# Altium integrated library ST Memory EEPROM Flash.IntLib: 1183 symbols (part 11 of 23)
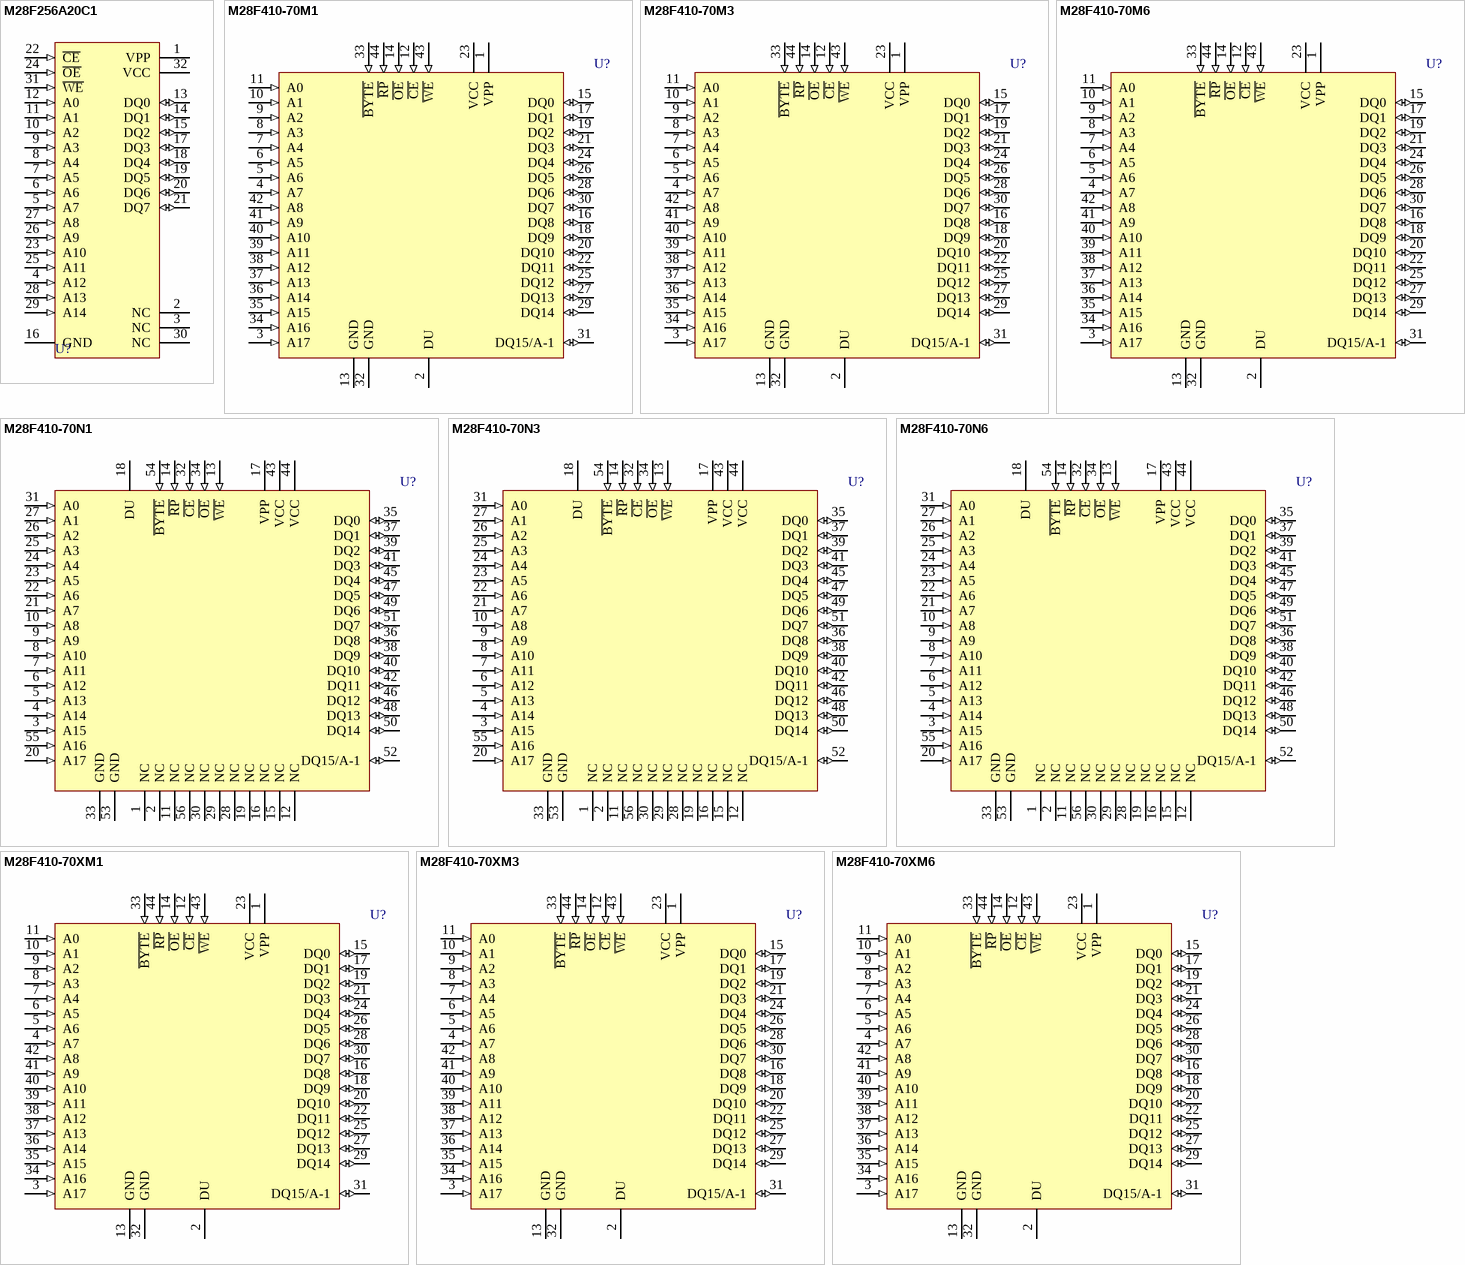
[diagram p91: symbols M28F256A20C1 to M28F410-70XM6]

## M28F410-70N6
designator U?
4 Mbit (x8 or x16, Block Erase) Flash Memory; Note: Do Not Use pin number 18 (DU).; Published: 24-Aug-2001; LatestRevisionDate: 17-Jul-2002; LatestRevisionNote: Re-released for DXP Platform.; DatasheetDocument: Mar-1995; PackageDocument: Jul-1998; PackageReference: TSOP56; Publisher: Altium Limited; Code_JEDEC: MO-142-EC
footprint TSOP56 (Shrink Small Outline, Plastic, Thin; 56 Leads; Body Width 18.4 mm; Pitch 0.5 mm)
pins: 1 NC, 2 NC, 3 A15 (in), 4 A14 (in), 5 A13 (in), 6 A12 (in), 7 A11 (in), 8 A10 (in), 9 A9 (in), 10 A8 (in), 11 NC, 12 NC, 13 ~{WE} (in), 14 ~{RP} (in), 15 NC, 16 NC, 17 VPP (power), 18 DU, 19 NC, 20 A17 (in), 21 A7 (in), 22 A6 (in), 23 A5 (in), 24 A4 (in), 25 A3 (in), 26 A2 (in), 27 A1 (in), 28 NC, 29 NC, 30 NC, 31 A0 (in), 32 ~{CE} (in), 33 GND (power), 34 ~{OE} (in), 35 DQ0 (io), 36 DQ8 (io), 37 DQ1 (io), 38 DQ9 (io), 39 DQ2 (io), 40 DQ10 (io), 41 DQ3 (io), 42 DQ11 (io), 43 VCC (power), 44 VCC (power), 45 DQ4 (io), 46 DQ12 (io), 47 DQ5 (io), 48 DQ13 (io), 49 DQ6 (io), 50 DQ14 (io), 51 DQ7 (io), 52 DQ15/A-1 (io), 53 GND (power), 54 ~{BYTE} (in), 55 A16 (in), 56 NC

## M28F410-70XM1
designator U?
4 Mbit (x8 or x16, Block Erase) Flash Memory; Note: Do Not Use pin number 2 (DU).; Published: 24-Aug-2001; LatestRevisionDate: 17-Jul-2002; LatestRevisionNote: Re-released for DXP Platform.; DatasheetDocument: Mar-1995; PackageReference: SO44; Publisher: Altium Limited
footprint SO44 (Small Outline, Plastic; 44 Leads; Body Width 13.3 mm; Pitch 1.27 mm)
pins: 1 VPP (power), 2 DU, 3 A17 (in), 4 A7 (in), 5 A6 (in), 6 A5 (in), 7 A4 (in), 8 A3 (in), 9 A2 (in), 10 A1 (in), 11 A0 (in), 12 ~{CE} (in), 13 GND (power), 14 ~{OE} (in), 15 DQ0 (io), 16 DQ8 (io), 17 DQ1 (io), 18 DQ9 (io), 19 DQ2 (io), 20 DQ10 (io), 21 DQ3 (io), 22 DQ11 (io), 23 VCC (power), 24 DQ4 (io), 25 DQ12 (io), 26 DQ5 (io), 27 DQ13 (io), 28 DQ6 (io), 29 DQ14 (io), 30 DQ7 (io), 31 DQ15/A-1 (io), 32 GND (power), 33 ~{BYTE} (in), 34 A16 (in), 35 A15 (in), 36 A14 (in), 37 A13 (in), 38 A12 (in), 39 A11 (in), 40 A10 (in), 41 A9 (in), 42 A8 (in), 43 ~{WE} (in), 44 ~{RP} (in)

## M28F410-70XM3
designator U?
4 Mbit (x8 or x16, Block Erase) Flash Memory; Note: Do Not Use pin number 2 (DU).; Published: 24-Aug-2001; LatestRevisionDate: 17-Jul-2002; LatestRevisionNote: Re-released for DXP Platform.; DatasheetDocument: Mar-1995; PackageReference: SO44; Publisher: Altium Limited
footprint SO44 (Small Outline, Plastic; 44 Leads; Body Width 13.3 mm; Pitch 1.27 mm)
pins: 1 VPP (power), 2 DU, 3 A17 (in), 4 A7 (in), 5 A6 (in), 6 A5 (in), 7 A4 (in), 8 A3 (in), 9 A2 (in), 10 A1 (in), 11 A0 (in), 12 ~{CE} (in), 13 GND (power), 14 ~{OE} (in), 15 DQ0 (io), 16 DQ8 (io), 17 DQ1 (io), 18 DQ9 (io), 19 DQ2 (io), 20 DQ10 (io), 21 DQ3 (io), 22 DQ11 (io), 23 VCC (power), 24 DQ4 (io), 25 DQ12 (io), 26 DQ5 (io), 27 DQ13 (io), 28 DQ6 (io), 29 DQ14 (io), 30 DQ7 (io), 31 DQ15/A-1 (io), 32 GND (power), 33 ~{BYTE} (in), 34 A16 (in), 35 A15 (in), 36 A14 (in), 37 A13 (in), 38 A12 (in), 39 A11 (in), 40 A10 (in), 41 A9 (in), 42 A8 (in), 43 ~{WE} (in), 44 ~{RP} (in)

## M28F410-70XM6
designator U?
4 Mbit (x8 or x16, Block Erase) Flash Memory; Note: Do Not Use pin number 2 (DU).; Published: 24-Aug-2001; LatestRevisionDate: 17-Jul-2002; LatestRevisionNote: Re-released for DXP Platform.; DatasheetDocument: Mar-1995; PackageReference: SO44; Publisher: Altium Limited
footprint SO44 (Small Outline, Plastic; 44 Leads; Body Width 13.3 mm; Pitch 1.27 mm)
pins: 1 VPP (power), 2 DU, 3 A17 (in), 4 A7 (in), 5 A6 (in), 6 A5 (in), 7 A4 (in), 8 A3 (in), 9 A2 (in), 10 A1 (in), 11 A0 (in), 12 ~{CE} (in), 13 GND (power), 14 ~{OE} (in), 15 DQ0 (io), 16 DQ8 (io), 17 DQ1 (io), 18 DQ9 (io), 19 DQ2 (io), 20 DQ10 (io), 21 DQ3 (io), 22 DQ11 (io), 23 VCC (power), 24 DQ4 (io), 25 DQ12 (io), 26 DQ5 (io), 27 DQ13 (io), 28 DQ6 (io), 29 DQ14 (io), 30 DQ7 (io), 31 DQ15/A-1 (io), 32 GND (power), 33 ~{BYTE} (in), 34 A16 (in), 35 A15 (in), 36 A14 (in), 37 A13 (in), 38 A12 (in), 39 A11 (in), 40 A10 (in), 41 A9 (in), 42 A8 (in), 43 ~{WE} (in), 44 ~{RP} (in)

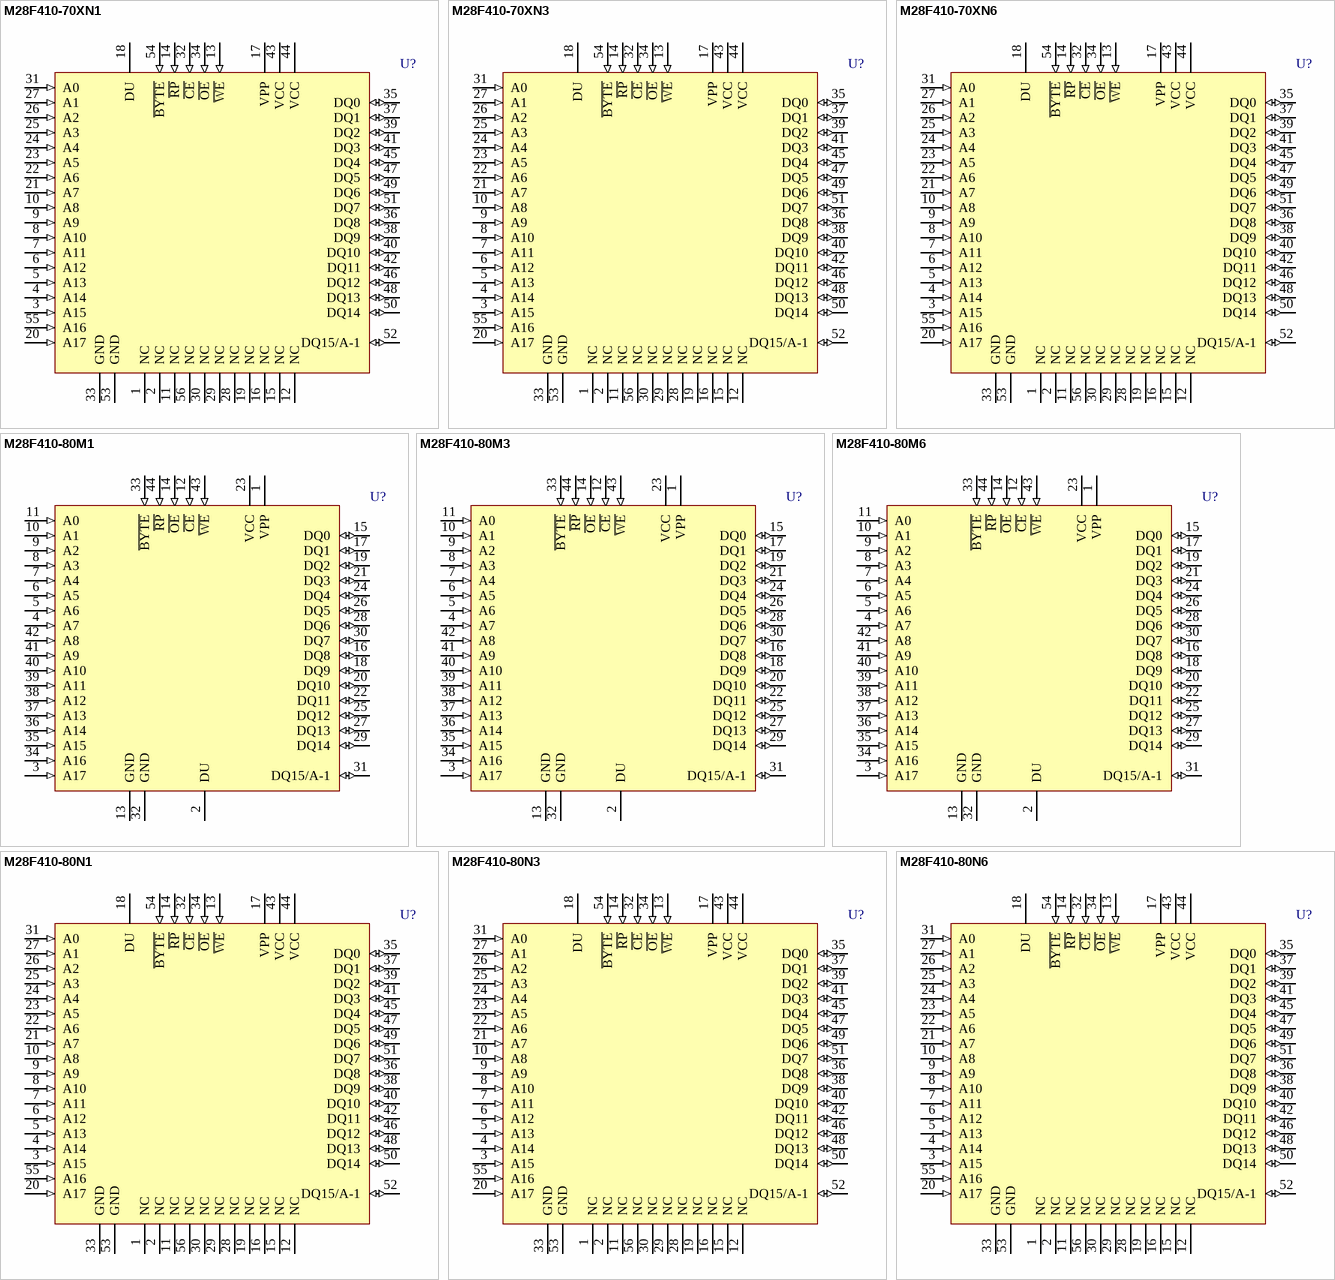
[diagram p33: symbols M28F410-70XN1 to M28F410-80N6]

## M28F410-70XN1
designator U?
4 Mbit (x8 or x16, Block Erase) Flash Memory; Note: Do Not Use pin number 18 (DU).; Published: 24-Aug-2001; LatestRevisionDate: 17-Jul-2002; LatestRevisionNote: Re-released for DXP Platform.; DatasheetDocument: Mar-1995; PackageDocument: Jul-1998; PackageReference: TSOP56; Publisher: Altium Limited; Code_JEDEC: MO-142-EC
footprint TSOP56 (Shrink Small Outline, Plastic, Thin; 56 Leads; Body Width 18.4 mm; Pitch 0.5 mm)
pins: 1 NC, 2 NC, 3 A15 (in), 4 A14 (in), 5 A13 (in), 6 A12 (in), 7 A11 (in), 8 A10 (in), 9 A9 (in), 10 A8 (in), 11 NC, 12 NC, 13 ~{WE} (in), 14 ~{RP} (in), 15 NC, 16 NC, 17 VPP (power), 18 DU, 19 NC, 20 A17 (in), 21 A7 (in), 22 A6 (in), 23 A5 (in), 24 A4 (in), 25 A3 (in), 26 A2 (in), 27 A1 (in), 28 NC, 29 NC, 30 NC, 31 A0 (in), 32 ~{CE} (in), 33 GND (power), 34 ~{OE} (in), 35 DQ0 (io), 36 DQ8 (io), 37 DQ1 (io), 38 DQ9 (io), 39 DQ2 (io), 40 DQ10 (io), 41 DQ3 (io), 42 DQ11 (io), 43 VCC (power), 44 VCC (power), 45 DQ4 (io), 46 DQ12 (io), 47 DQ5 (io), 48 DQ13 (io), 49 DQ6 (io), 50 DQ14 (io), 51 DQ7 (io), 52 DQ15/A-1 (io), 53 GND (power), 54 ~{BYTE} (in), 55 A16 (in), 56 NC

## M28F410-70XN3
designator U?
4 Mbit (x8 or x16, Block Erase) Flash Memory; Note: Do Not Use pin number 18 (DU).; Published: 24-Aug-2001; LatestRevisionDate: 17-Jul-2002; LatestRevisionNote: Re-released for DXP Platform.; DatasheetDocument: Mar-1995; PackageDocument: Jul-1998; PackageReference: TSOP56; Publisher: Altium Limited; Code_JEDEC: MO-142-EC
footprint TSOP56 (Shrink Small Outline, Plastic, Thin; 56 Leads; Body Width 18.4 mm; Pitch 0.5 mm)
pins: 1 NC, 2 NC, 3 A15 (in), 4 A14 (in), 5 A13 (in), 6 A12 (in), 7 A11 (in), 8 A10 (in), 9 A9 (in), 10 A8 (in), 11 NC, 12 NC, 13 ~{WE} (in), 14 ~{RP} (in), 15 NC, 16 NC, 17 VPP (power), 18 DU, 19 NC, 20 A17 (in), 21 A7 (in), 22 A6 (in), 23 A5 (in), 24 A4 (in), 25 A3 (in), 26 A2 (in), 27 A1 (in), 28 NC, 29 NC, 30 NC, 31 A0 (in), 32 ~{CE} (in), 33 GND (power), 34 ~{OE} (in), 35 DQ0 (io), 36 DQ8 (io), 37 DQ1 (io), 38 DQ9 (io), 39 DQ2 (io), 40 DQ10 (io), 41 DQ3 (io), 42 DQ11 (io), 43 VCC (power), 44 VCC (power), 45 DQ4 (io), 46 DQ12 (io), 47 DQ5 (io), 48 DQ13 (io), 49 DQ6 (io), 50 DQ14 (io), 51 DQ7 (io), 52 DQ15/A-1 (io), 53 GND (power), 54 ~{BYTE} (in), 55 A16 (in), 56 NC

## M28F410-70XN6
designator U?
4 Mbit (x8 or x16, Block Erase) Flash Memory; Note: Do Not Use pin number 18 (DU).; Published: 24-Aug-2001; LatestRevisionDate: 17-Jul-2002; LatestRevisionNote: Re-released for DXP Platform.; DatasheetDocument: Mar-1995; PackageDocument: Jul-1998; PackageReference: TSOP56; Publisher: Altium Limited; Code_JEDEC: MO-142-EC
footprint TSOP56 (Shrink Small Outline, Plastic, Thin; 56 Leads; Body Width 18.4 mm; Pitch 0.5 mm)
pins: 1 NC, 2 NC, 3 A15 (in), 4 A14 (in), 5 A13 (in), 6 A12 (in), 7 A11 (in), 8 A10 (in), 9 A9 (in), 10 A8 (in), 11 NC, 12 NC, 13 ~{WE} (in), 14 ~{RP} (in), 15 NC, 16 NC, 17 VPP (power), 18 DU, 19 NC, 20 A17 (in), 21 A7 (in), 22 A6 (in), 23 A5 (in), 24 A4 (in), 25 A3 (in), 26 A2 (in), 27 A1 (in), 28 NC, 29 NC, 30 NC, 31 A0 (in), 32 ~{CE} (in), 33 GND (power), 34 ~{OE} (in), 35 DQ0 (io), 36 DQ8 (io), 37 DQ1 (io), 38 DQ9 (io), 39 DQ2 (io), 40 DQ10 (io), 41 DQ3 (io), 42 DQ11 (io), 43 VCC (power), 44 VCC (power), 45 DQ4 (io), 46 DQ12 (io), 47 DQ5 (io), 48 DQ13 (io), 49 DQ6 (io), 50 DQ14 (io), 51 DQ7 (io), 52 DQ15/A-1 (io), 53 GND (power), 54 ~{BYTE} (in), 55 A16 (in), 56 NC

## M28F410-80M1
designator U?
4 Mbit (x8 or x16, Block Erase) Flash Memory; Note: Do Not Use pin number 2 (DU).; Published: 24-Aug-2001; LatestRevisionDate: 17-Jul-2002; LatestRevisionNote: Re-released for DXP Platform.; DatasheetDocument: Mar-1995; PackageReference: SO44; Publisher: Altium Limited
footprint SO44 (Small Outline, Plastic; 44 Leads; Body Width 13.3 mm; Pitch 1.27 mm)
pins: 1 VPP (power), 2 DU, 3 A17 (in), 4 A7 (in), 5 A6 (in), 6 A5 (in), 7 A4 (in), 8 A3 (in), 9 A2 (in), 10 A1 (in), 11 A0 (in), 12 ~{CE} (in), 13 GND (power), 14 ~{OE} (in), 15 DQ0 (io), 16 DQ8 (io), 17 DQ1 (io), 18 DQ9 (io), 19 DQ2 (io), 20 DQ10 (io), 21 DQ3 (io), 22 DQ11 (io), 23 VCC (power), 24 DQ4 (io), 25 DQ12 (io), 26 DQ5 (io), 27 DQ13 (io), 28 DQ6 (io), 29 DQ14 (io), 30 DQ7 (io), 31 DQ15/A-1 (io), 32 GND (power), 33 ~{BYTE} (in), 34 A16 (in), 35 A15 (in), 36 A14 (in), 37 A13 (in), 38 A12 (in), 39 A11 (in), 40 A10 (in), 41 A9 (in), 42 A8 (in), 43 ~{WE} (in), 44 ~{RP} (in)

## M28F410-80M3
designator U?
4 Mbit (x8 or x16, Block Erase) Flash Memory; Note: Do Not Use pin number 2 (DU).; Published: 24-Aug-2001; LatestRevisionDate: 17-Jul-2002; LatestRevisionNote: Re-released for DXP Platform.; DatasheetDocument: Mar-1995; PackageReference: SO44; Publisher: Altium Limited
footprint SO44 (Small Outline, Plastic; 44 Leads; Body Width 13.3 mm; Pitch 1.27 mm)
pins: 1 VPP (power), 2 DU, 3 A17 (in), 4 A7 (in), 5 A6 (in), 6 A5 (in), 7 A4 (in), 8 A3 (in), 9 A2 (in), 10 A1 (in), 11 A0 (in), 12 ~{CE} (in), 13 GND (power), 14 ~{OE} (in), 15 DQ0 (io), 16 DQ8 (io), 17 DQ1 (io), 18 DQ9 (io), 19 DQ2 (io), 20 DQ10 (io), 21 DQ3 (io), 22 DQ11 (io), 23 VCC (power), 24 DQ4 (io), 25 DQ12 (io), 26 DQ5 (io), 27 DQ13 (io), 28 DQ6 (io), 29 DQ14 (io), 30 DQ7 (io), 31 DQ15/A-1 (io), 32 GND (power), 33 ~{BYTE} (in), 34 A16 (in), 35 A15 (in), 36 A14 (in), 37 A13 (in), 38 A12 (in), 39 A11 (in), 40 A10 (in), 41 A9 (in), 42 A8 (in), 43 ~{WE} (in), 44 ~{RP} (in)

## M28F410-80M6
designator U?
4 Mbit (x8 or x16, Block Erase) Flash Memory; Note: Do Not Use pin number 2 (DU).; Published: 24-Aug-2001; LatestRevisionDate: 17-Jul-2002; LatestRevisionNote: Re-released for DXP Platform.; DatasheetDocument: Mar-1995; PackageReference: SO44; Publisher: Altium Limited
footprint SO44 (Small Outline, Plastic; 44 Leads; Body Width 13.3 mm; Pitch 1.27 mm)
pins: 1 VPP (power), 2 DU, 3 A17 (in), 4 A7 (in), 5 A6 (in), 6 A5 (in), 7 A4 (in), 8 A3 (in), 9 A2 (in), 10 A1 (in), 11 A0 (in), 12 ~{CE} (in), 13 GND (power), 14 ~{OE} (in), 15 DQ0 (io), 16 DQ8 (io), 17 DQ1 (io), 18 DQ9 (io), 19 DQ2 (io), 20 DQ10 (io), 21 DQ3 (io), 22 DQ11 (io), 23 VCC (power), 24 DQ4 (io), 25 DQ12 (io), 26 DQ5 (io), 27 DQ13 (io), 28 DQ6 (io), 29 DQ14 (io), 30 DQ7 (io), 31 DQ15/A-1 (io), 32 GND (power), 33 ~{BYTE} (in), 34 A16 (in), 35 A15 (in), 36 A14 (in), 37 A13 (in), 38 A12 (in), 39 A11 (in), 40 A10 (in), 41 A9 (in), 42 A8 (in), 43 ~{WE} (in), 44 ~{RP} (in)

## M28F410-80N1
designator U?
4 Mbit (x8 or x16, Block Erase) Flash Memory; Note: Do Not Use pin number 18 (DU).; Published: 24-Aug-2001; LatestRevisionDate: 17-Jul-2002; LatestRevisionNote: Re-released for DXP Platform.; DatasheetDocument: Mar-1995; PackageDocument: Jul-1998; PackageReference: TSOP56; Publisher: Altium Limited; Code_JEDEC: MO-142-EC
footprint TSOP56 (Shrink Small Outline, Plastic, Thin; 56 Leads; Body Width 18.4 mm; Pitch 0.5 mm)
pins: 1 NC, 2 NC, 3 A15 (in), 4 A14 (in), 5 A13 (in), 6 A12 (in), 7 A11 (in), 8 A10 (in), 9 A9 (in), 10 A8 (in), 11 NC, 12 NC, 13 ~{WE} (in), 14 ~{RP} (in), 15 NC, 16 NC, 17 VPP (power), 18 DU, 19 NC, 20 A17 (in), 21 A7 (in), 22 A6 (in), 23 A5 (in), 24 A4 (in), 25 A3 (in), 26 A2 (in), 27 A1 (in), 28 NC, 29 NC, 30 NC, 31 A0 (in), 32 ~{CE} (in), 33 GND (power), 34 ~{OE} (in), 35 DQ0 (io), 36 DQ8 (io), 37 DQ1 (io), 38 DQ9 (io), 39 DQ2 (io), 40 DQ10 (io), 41 DQ3 (io), 42 DQ11 (io), 43 VCC (power), 44 VCC (power), 45 DQ4 (io), 46 DQ12 (io), 47 DQ5 (io), 48 DQ13 (io), 49 DQ6 (io), 50 DQ14 (io), 51 DQ7 (io), 52 DQ15/A-1 (io), 53 GND (power), 54 ~{BYTE} (in), 55 A16 (in), 56 NC

## M28F410-80N3
designator U?
4 Mbit (x8 or x16, Block Erase) Flash Memory; Note: Do Not Use pin number 18 (DU).; Published: 24-Aug-2001; LatestRevisionDate: 17-Jul-2002; LatestRevisionNote: Re-released for DXP Platform.; DatasheetDocument: Mar-1995; PackageDocument: Jul-1998; PackageReference: TSOP56; Publisher: Altium Limited; Code_JEDEC: MO-142-EC
footprint TSOP56 (Shrink Small Outline, Plastic, Thin; 56 Leads; Body Width 18.4 mm; Pitch 0.5 mm)
pins: 1 NC, 2 NC, 3 A15 (in), 4 A14 (in), 5 A13 (in), 6 A12 (in), 7 A11 (in), 8 A10 (in), 9 A9 (in), 10 A8 (in), 11 NC, 12 NC, 13 ~{WE} (in), 14 ~{RP} (in), 15 NC, 16 NC, 17 VPP (power), 18 DU, 19 NC, 20 A17 (in), 21 A7 (in), 22 A6 (in), 23 A5 (in), 24 A4 (in), 25 A3 (in), 26 A2 (in), 27 A1 (in), 28 NC, 29 NC, 30 NC, 31 A0 (in), 32 ~{CE} (in), 33 GND (power), 34 ~{OE} (in), 35 DQ0 (io), 36 DQ8 (io), 37 DQ1 (io), 38 DQ9 (io), 39 DQ2 (io), 40 DQ10 (io), 41 DQ3 (io), 42 DQ11 (io), 43 VCC (power), 44 VCC (power), 45 DQ4 (io), 46 DQ12 (io), 47 DQ5 (io), 48 DQ13 (io), 49 DQ6 (io), 50 DQ14 (io), 51 DQ7 (io), 52 DQ15/A-1 (io), 53 GND (power), 54 ~{BYTE} (in), 55 A16 (in), 56 NC

## M28F410-80N6
designator U?
4 Mbit (x8 or x16, Block Erase) Flash Memory; Note: Do Not Use pin number 18 (DU).; Published: 24-Aug-2001; LatestRevisionDate: 17-Jul-2002; LatestRevisionNote: Re-released for DXP Platform.; DatasheetDocument: Mar-1995; PackageDocument: Jul-1998; PackageReference: TSOP56; Publisher: Altium Limited; Code_JEDEC: MO-142-EC
footprint TSOP56 (Shrink Small Outline, Plastic, Thin; 56 Leads; Body Width 18.4 mm; Pitch 0.5 mm)
pins: 1 NC, 2 NC, 3 A15 (in), 4 A14 (in), 5 A13 (in), 6 A12 (in), 7 A11 (in), 8 A10 (in), 9 A9 (in), 10 A8 (in), 11 NC, 12 NC, 13 ~{WE} (in), 14 ~{RP} (in), 15 NC, 16 NC, 17 VPP (power), 18 DU, 19 NC, 20 A17 (in), 21 A7 (in), 22 A6 (in), 23 A5 (in), 24 A4 (in), 25 A3 (in), 26 A2 (in), 27 A1 (in), 28 NC, 29 NC, 30 NC, 31 A0 (in), 32 ~{CE} (in), 33 GND (power), 34 ~{OE} (in), 35 DQ0 (io), 36 DQ8 (io), 37 DQ1 (io), 38 DQ9 (io), 39 DQ2 (io), 40 DQ10 (io), 41 DQ3 (io), 42 DQ11 (io), 43 VCC (power), 44 VCC (power), 45 DQ4 (io), 46 DQ12 (io), 47 DQ5 (io), 48 DQ13 (io), 49 DQ6 (io), 50 DQ14 (io), 51 DQ7 (io), 52 DQ15/A-1 (io), 53 GND (power), 54 ~{BYTE} (in), 55 A16 (in), 56 NC

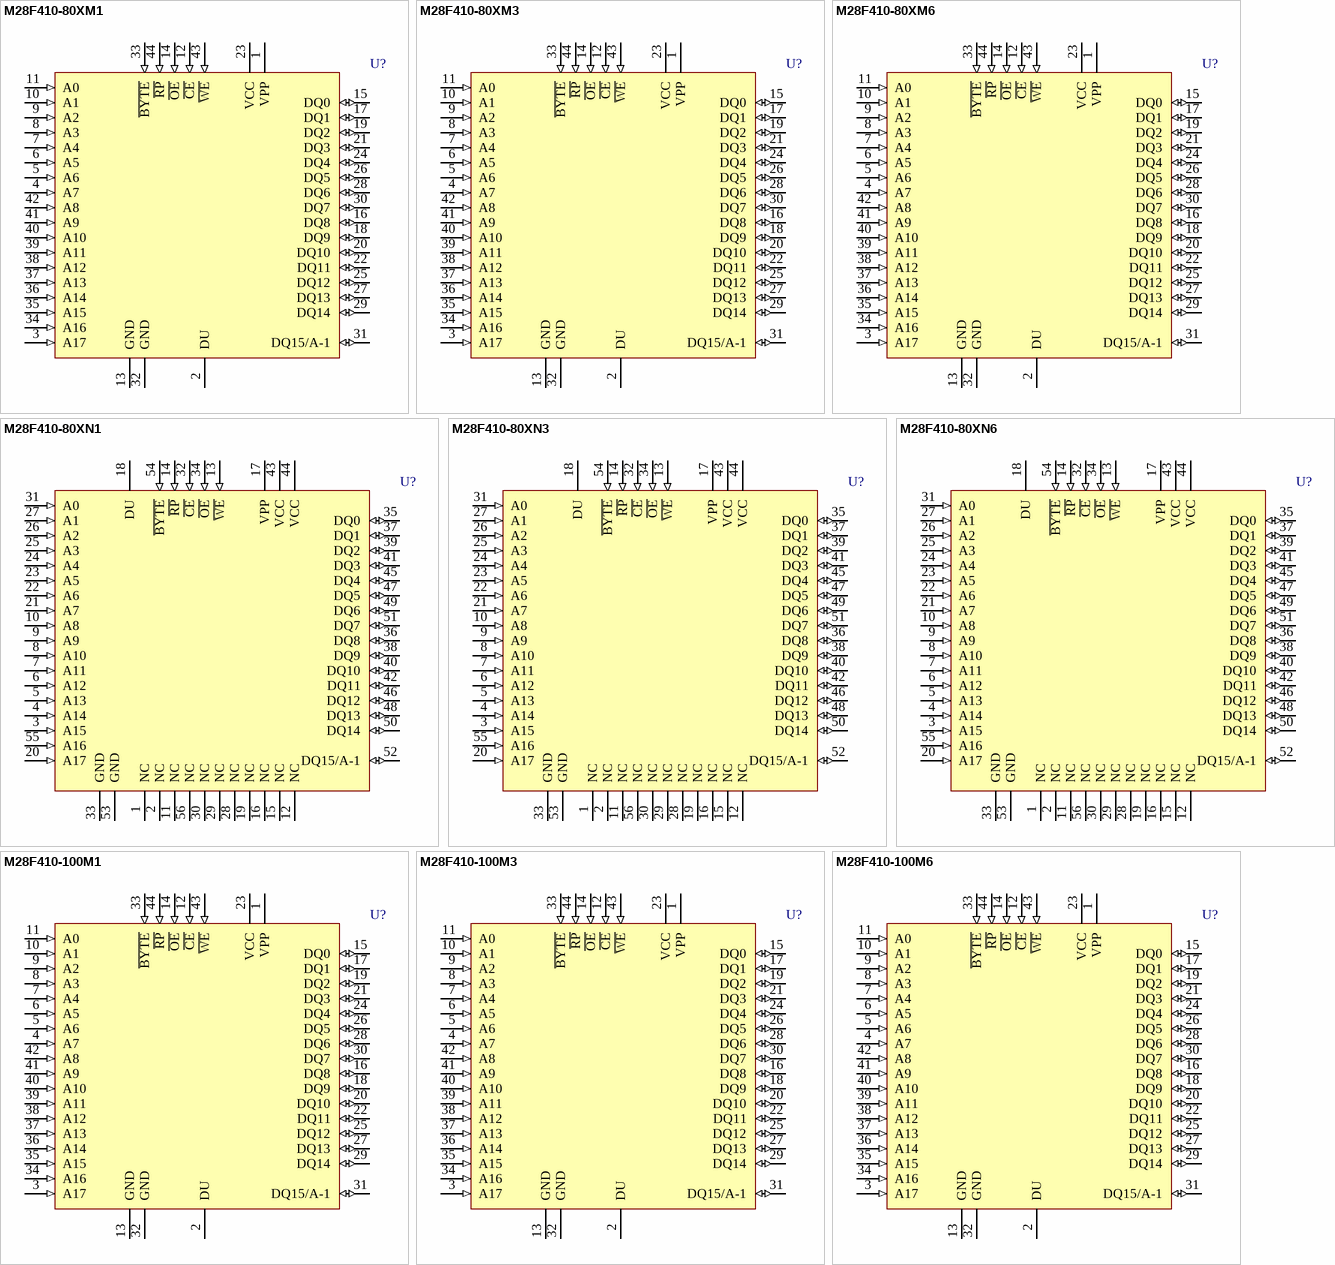
[diagram p34: symbols M28F410-80XM1 to M28F410-100M6]

## M28F410-80XM1
designator U?
4 Mbit (x8 or x16, Block Erase) Flash Memory; Note: Do Not Use pin number 2 (DU).; Published: 24-Aug-2001; LatestRevisionDate: 17-Jul-2002; LatestRevisionNote: Re-released for DXP Platform.; DatasheetDocument: Mar-1995; PackageReference: SO44; Publisher: Altium Limited
footprint SO44 (Small Outline, Plastic; 44 Leads; Body Width 13.3 mm; Pitch 1.27 mm)
pins: 1 VPP (power), 2 DU, 3 A17 (in), 4 A7 (in), 5 A6 (in), 6 A5 (in), 7 A4 (in), 8 A3 (in), 9 A2 (in), 10 A1 (in), 11 A0 (in), 12 ~{CE} (in), 13 GND (power), 14 ~{OE} (in), 15 DQ0 (io), 16 DQ8 (io), 17 DQ1 (io), 18 DQ9 (io), 19 DQ2 (io), 20 DQ10 (io), 21 DQ3 (io), 22 DQ11 (io), 23 VCC (power), 24 DQ4 (io), 25 DQ12 (io), 26 DQ5 (io), 27 DQ13 (io), 28 DQ6 (io), 29 DQ14 (io), 30 DQ7 (io), 31 DQ15/A-1 (io), 32 GND (power), 33 ~{BYTE} (in), 34 A16 (in), 35 A15 (in), 36 A14 (in), 37 A13 (in), 38 A12 (in), 39 A11 (in), 40 A10 (in), 41 A9 (in), 42 A8 (in), 43 ~{WE} (in), 44 ~{RP} (in)

## M28F410-80XM3
designator U?
4 Mbit (x8 or x16, Block Erase) Flash Memory; Note: Do Not Use pin number 2 (DU).; Published: 24-Aug-2001; LatestRevisionDate: 17-Jul-2002; LatestRevisionNote: Re-released for DXP Platform.; DatasheetDocument: Mar-1995; PackageReference: SO44; Publisher: Altium Limited
footprint SO44 (Small Outline, Plastic; 44 Leads; Body Width 13.3 mm; Pitch 1.27 mm)
pins: 1 VPP (power), 2 DU, 3 A17 (in), 4 A7 (in), 5 A6 (in), 6 A5 (in), 7 A4 (in), 8 A3 (in), 9 A2 (in), 10 A1 (in), 11 A0 (in), 12 ~{CE} (in), 13 GND (power), 14 ~{OE} (in), 15 DQ0 (io), 16 DQ8 (io), 17 DQ1 (io), 18 DQ9 (io), 19 DQ2 (io), 20 DQ10 (io), 21 DQ3 (io), 22 DQ11 (io), 23 VCC (power), 24 DQ4 (io), 25 DQ12 (io), 26 DQ5 (io), 27 DQ13 (io), 28 DQ6 (io), 29 DQ14 (io), 30 DQ7 (io), 31 DQ15/A-1 (io), 32 GND (power), 33 ~{BYTE} (in), 34 A16 (in), 35 A15 (in), 36 A14 (in), 37 A13 (in), 38 A12 (in), 39 A11 (in), 40 A10 (in), 41 A9 (in), 42 A8 (in), 43 ~{WE} (in), 44 ~{RP} (in)

## M28F410-80XM6
designator U?
4 Mbit (x8 or x16, Block Erase) Flash Memory; Note: Do Not Use pin number 2 (DU).; Published: 24-Aug-2001; LatestRevisionDate: 17-Jul-2002; LatestRevisionNote: Re-released for DXP Platform.; DatasheetDocument: Mar-1995; PackageReference: SO44; Publisher: Altium Limited
footprint SO44 (Small Outline, Plastic; 44 Leads; Body Width 13.3 mm; Pitch 1.27 mm)
pins: 1 VPP (power), 2 DU, 3 A17 (in), 4 A7 (in), 5 A6 (in), 6 A5 (in), 7 A4 (in), 8 A3 (in), 9 A2 (in), 10 A1 (in), 11 A0 (in), 12 ~{CE} (in), 13 GND (power), 14 ~{OE} (in), 15 DQ0 (io), 16 DQ8 (io), 17 DQ1 (io), 18 DQ9 (io), 19 DQ2 (io), 20 DQ10 (io), 21 DQ3 (io), 22 DQ11 (io), 23 VCC (power), 24 DQ4 (io), 25 DQ12 (io), 26 DQ5 (io), 27 DQ13 (io), 28 DQ6 (io), 29 DQ14 (io), 30 DQ7 (io), 31 DQ15/A-1 (io), 32 GND (power), 33 ~{BYTE} (in), 34 A16 (in), 35 A15 (in), 36 A14 (in), 37 A13 (in), 38 A12 (in), 39 A11 (in), 40 A10 (in), 41 A9 (in), 42 A8 (in), 43 ~{WE} (in), 44 ~{RP} (in)

## M28F410-80XN1
designator U?
4 Mbit (x8 or x16, Block Erase) Flash Memory; Note: Do Not Use pin number 18 (DU).; Published: 24-Aug-2001; LatestRevisionDate: 17-Jul-2002; LatestRevisionNote: Re-released for DXP Platform.; DatasheetDocument: Mar-1995; PackageDocument: Jul-1998; PackageReference: TSOP56; Publisher: Altium Limited; Code_JEDEC: MO-142-EC
footprint TSOP56 (Shrink Small Outline, Plastic, Thin; 56 Leads; Body Width 18.4 mm; Pitch 0.5 mm)
pins: 1 NC, 2 NC, 3 A15 (in), 4 A14 (in), 5 A13 (in), 6 A12 (in), 7 A11 (in), 8 A10 (in), 9 A9 (in), 10 A8 (in), 11 NC, 12 NC, 13 ~{WE} (in), 14 ~{RP} (in), 15 NC, 16 NC, 17 VPP (power), 18 DU, 19 NC, 20 A17 (in), 21 A7 (in), 22 A6 (in), 23 A5 (in), 24 A4 (in), 25 A3 (in), 26 A2 (in), 27 A1 (in), 28 NC, 29 NC, 30 NC, 31 A0 (in), 32 ~{CE} (in), 33 GND (power), 34 ~{OE} (in), 35 DQ0 (io), 36 DQ8 (io), 37 DQ1 (io), 38 DQ9 (io), 39 DQ2 (io), 40 DQ10 (io), 41 DQ3 (io), 42 DQ11 (io), 43 VCC (power), 44 VCC (power), 45 DQ4 (io), 46 DQ12 (io), 47 DQ5 (io), 48 DQ13 (io), 49 DQ6 (io), 50 DQ14 (io), 51 DQ7 (io), 52 DQ15/A-1 (io), 53 GND (power), 54 ~{BYTE} (in), 55 A16 (in), 56 NC

## M28F410-80XN3
designator U?
4 Mbit (x8 or x16, Block Erase) Flash Memory; Note: Do Not Use pin number 18 (DU).; Published: 24-Aug-2001; LatestRevisionDate: 17-Jul-2002; LatestRevisionNote: Re-released for DXP Platform.; DatasheetDocument: Mar-1995; PackageDocument: Jul-1998; PackageReference: TSOP56; Publisher: Altium Limited; Code_JEDEC: MO-142-EC
footprint TSOP56 (Shrink Small Outline, Plastic, Thin; 56 Leads; Body Width 18.4 mm; Pitch 0.5 mm)
pins: 1 NC, 2 NC, 3 A15 (in), 4 A14 (in), 5 A13 (in), 6 A12 (in), 7 A11 (in), 8 A10 (in), 9 A9 (in), 10 A8 (in), 11 NC, 12 NC, 13 ~{WE} (in), 14 ~{RP} (in), 15 NC, 16 NC, 17 VPP (power), 18 DU, 19 NC, 20 A17 (in), 21 A7 (in), 22 A6 (in), 23 A5 (in), 24 A4 (in), 25 A3 (in), 26 A2 (in), 27 A1 (in), 28 NC, 29 NC, 30 NC, 31 A0 (in), 32 ~{CE} (in), 33 GND (power), 34 ~{OE} (in), 35 DQ0 (io), 36 DQ8 (io), 37 DQ1 (io), 38 DQ9 (io), 39 DQ2 (io), 40 DQ10 (io), 41 DQ3 (io), 42 DQ11 (io), 43 VCC (power), 44 VCC (power), 45 DQ4 (io), 46 DQ12 (io), 47 DQ5 (io), 48 DQ13 (io), 49 DQ6 (io), 50 DQ14 (io), 51 DQ7 (io), 52 DQ15/A-1 (io), 53 GND (power), 54 ~{BYTE} (in), 55 A16 (in), 56 NC

## M28F410-80XN6
designator U?
4 Mbit (x8 or x16, Block Erase) Flash Memory; Note: Do Not Use pin number 18 (DU).; Published: 24-Aug-2001; LatestRevisionDate: 17-Jul-2002; LatestRevisionNote: Re-released for DXP Platform.; DatasheetDocument: Mar-1995; PackageDocument: Jul-1998; PackageReference: TSOP56; Publisher: Altium Limited; Code_JEDEC: MO-142-EC
footprint TSOP56 (Shrink Small Outline, Plastic, Thin; 56 Leads; Body Width 18.4 mm; Pitch 0.5 mm)
pins: 1 NC, 2 NC, 3 A15 (in), 4 A14 (in), 5 A13 (in), 6 A12 (in), 7 A11 (in), 8 A10 (in), 9 A9 (in), 10 A8 (in), 11 NC, 12 NC, 13 ~{WE} (in), 14 ~{RP} (in), 15 NC, 16 NC, 17 VPP (power), 18 DU, 19 NC, 20 A17 (in), 21 A7 (in), 22 A6 (in), 23 A5 (in), 24 A4 (in), 25 A3 (in), 26 A2 (in), 27 A1 (in), 28 NC, 29 NC, 30 NC, 31 A0 (in), 32 ~{CE} (in), 33 GND (power), 34 ~{OE} (in), 35 DQ0 (io), 36 DQ8 (io), 37 DQ1 (io), 38 DQ9 (io), 39 DQ2 (io), 40 DQ10 (io), 41 DQ3 (io), 42 DQ11 (io), 43 VCC (power), 44 VCC (power), 45 DQ4 (io), 46 DQ12 (io), 47 DQ5 (io), 48 DQ13 (io), 49 DQ6 (io), 50 DQ14 (io), 51 DQ7 (io), 52 DQ15/A-1 (io), 53 GND (power), 54 ~{BYTE} (in), 55 A16 (in), 56 NC

## M28F410-100M1
designator U?
4 Mbit (x8 or x16, Block Erase) Flash Memory; Note: Do Not Use pin number 2 (DU).; Published: 24-Aug-2001; LatestRevisionDate: 17-Jul-2002; LatestRevisionNote: Re-released for DXP Platform.; DatasheetDocument: Mar-1995; PackageReference: SO44; Publisher: Altium Limited
footprint SO44 (Small Outline, Plastic; 44 Leads; Body Width 13.3 mm; Pitch 1.27 mm)
pins: 1 VPP (power), 2 DU, 3 A17 (in), 4 A7 (in), 5 A6 (in), 6 A5 (in), 7 A4 (in), 8 A3 (in), 9 A2 (in), 10 A1 (in), 11 A0 (in), 12 ~{CE} (in), 13 GND (power), 14 ~{OE} (in), 15 DQ0 (io), 16 DQ8 (io), 17 DQ1 (io), 18 DQ9 (io), 19 DQ2 (io), 20 DQ10 (io), 21 DQ3 (io), 22 DQ11 (io), 23 VCC (power), 24 DQ4 (io), 25 DQ12 (io), 26 DQ5 (io), 27 DQ13 (io), 28 DQ6 (io), 29 DQ14 (io), 30 DQ7 (io), 31 DQ15/A-1 (io), 32 GND (power), 33 ~{BYTE} (in), 34 A16 (in), 35 A15 (in), 36 A14 (in), 37 A13 (in), 38 A12 (in), 39 A11 (in), 40 A10 (in), 41 A9 (in), 42 A8 (in), 43 ~{WE} (in), 44 ~{RP} (in)

## M28F410-100M3
designator U?
4 Mbit (x8 or x16, Block Erase) Flash Memory; Note: Do Not Use pin number 2 (DU).; Published: 24-Aug-2001; LatestRevisionDate: 17-Jul-2002; LatestRevisionNote: Re-released for DXP Platform.; DatasheetDocument: Mar-1995; PackageReference: SO44; Publisher: Altium Limited
footprint SO44 (Small Outline, Plastic; 44 Leads; Body Width 13.3 mm; Pitch 1.27 mm)
pins: 1 VPP (power), 2 DU, 3 A17 (in), 4 A7 (in), 5 A6 (in), 6 A5 (in), 7 A4 (in), 8 A3 (in), 9 A2 (in), 10 A1 (in), 11 A0 (in), 12 ~{CE} (in), 13 GND (power), 14 ~{OE} (in), 15 DQ0 (io), 16 DQ8 (io), 17 DQ1 (io), 18 DQ9 (io), 19 DQ2 (io), 20 DQ10 (io), 21 DQ3 (io), 22 DQ11 (io), 23 VCC (power), 24 DQ4 (io), 25 DQ12 (io), 26 DQ5 (io), 27 DQ13 (io), 28 DQ6 (io), 29 DQ14 (io), 30 DQ7 (io), 31 DQ15/A-1 (io), 32 GND (power), 33 ~{BYTE} (in), 34 A16 (in), 35 A15 (in), 36 A14 (in), 37 A13 (in), 38 A12 (in), 39 A11 (in), 40 A10 (in), 41 A9 (in), 42 A8 (in), 43 ~{WE} (in), 44 ~{RP} (in)

## M28F410-100M6
designator U?
4 Mbit (x8 or x16, Block Erase) Flash Memory; Note: Do Not Use pin number 2 (DU).; Published: 24-Aug-2001; LatestRevisionDate: 17-Jul-2002; LatestRevisionNote: Re-released for DXP Platform.; DatasheetDocument: Mar-1995; PackageReference: SO44; Publisher: Altium Limited
footprint SO44 (Small Outline, Plastic; 44 Leads; Body Width 13.3 mm; Pitch 1.27 mm)
pins: 1 VPP (power), 2 DU, 3 A17 (in), 4 A7 (in), 5 A6 (in), 6 A5 (in), 7 A4 (in), 8 A3 (in), 9 A2 (in), 10 A1 (in), 11 A0 (in), 12 ~{CE} (in), 13 GND (power), 14 ~{OE} (in), 15 DQ0 (io), 16 DQ8 (io), 17 DQ1 (io), 18 DQ9 (io), 19 DQ2 (io), 20 DQ10 (io), 21 DQ3 (io), 22 DQ11 (io), 23 VCC (power), 24 DQ4 (io), 25 DQ12 (io), 26 DQ5 (io), 27 DQ13 (io), 28 DQ6 (io), 29 DQ14 (io), 30 DQ7 (io), 31 DQ15/A-1 (io), 32 GND (power), 33 ~{BYTE} (in), 34 A16 (in), 35 A15 (in), 36 A14 (in), 37 A13 (in), 38 A12 (in), 39 A11 (in), 40 A10 (in), 41 A9 (in), 42 A8 (in), 43 ~{WE} (in), 44 ~{RP} (in)

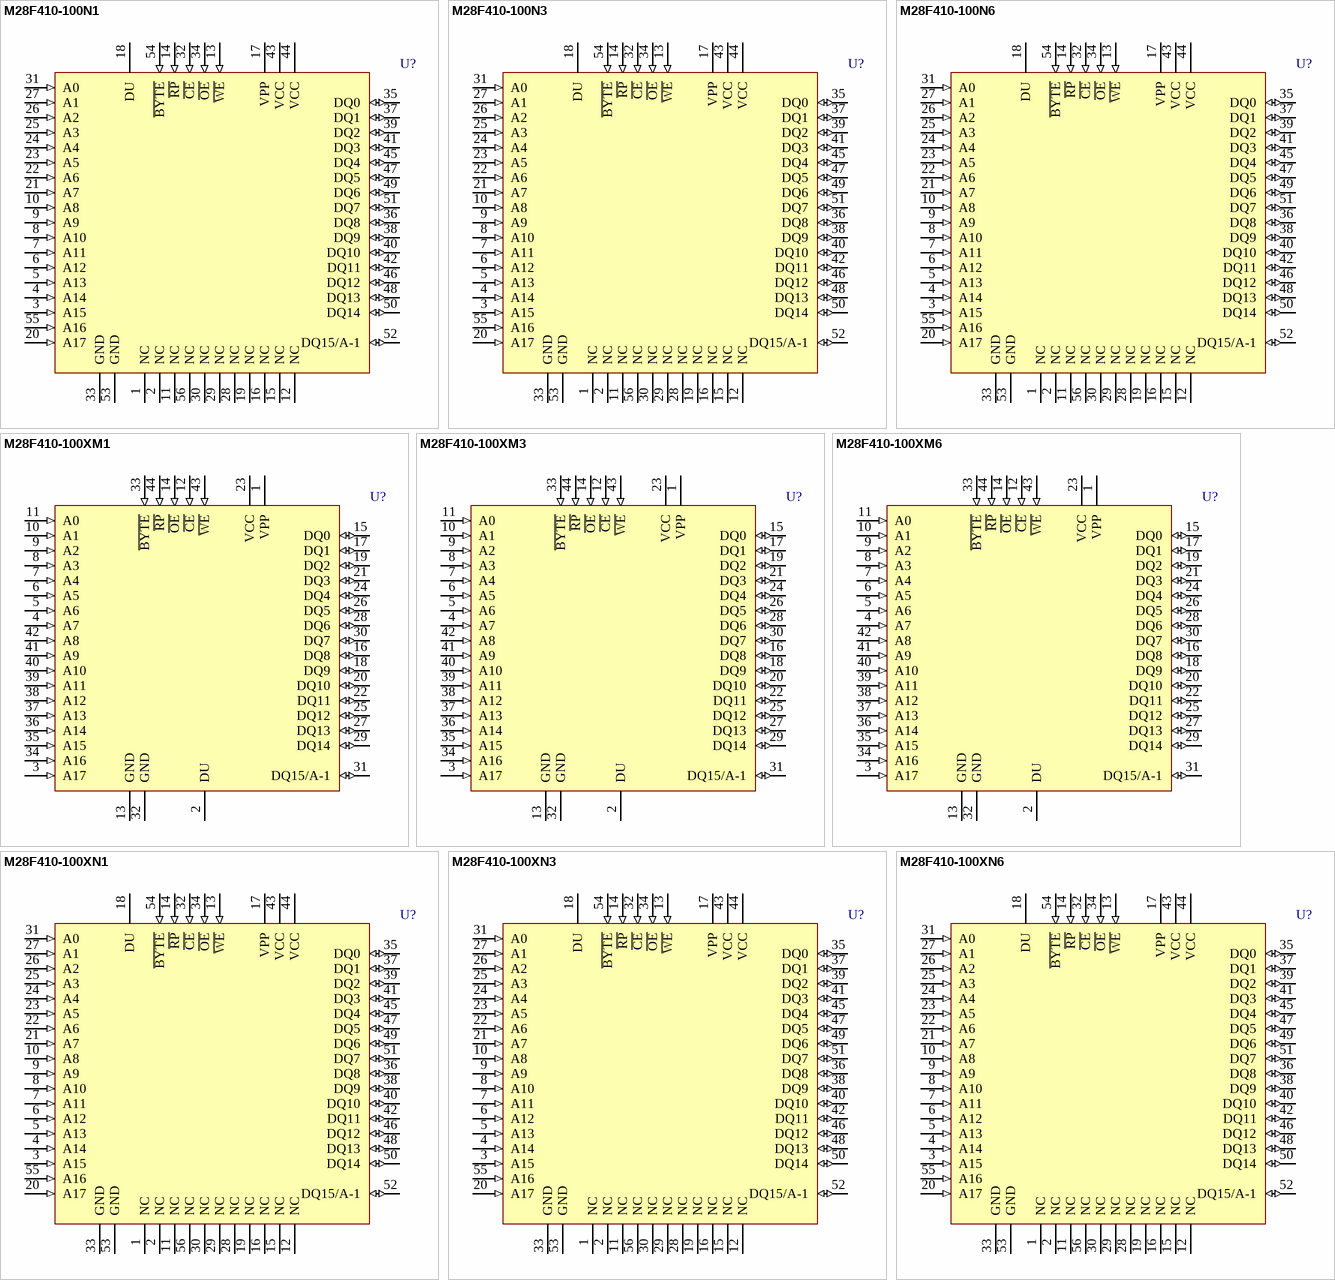
[diagram p35: symbols M28F410-100N1 to M28F410-100XN6]

## M28F410-100N1
designator U?
4 Mbit (x8 or x16, Block Erase) Flash Memory; Note: Do Not Use pin number 18 (DU).; Published: 24-Aug-2001; LatestRevisionDate: 17-Jul-2002; LatestRevisionNote: Re-released for DXP Platform.; DatasheetDocument: Mar-1995; PackageDocument: Jul-1998; PackageReference: TSOP56; Publisher: Altium Limited; Code_JEDEC: MO-142-EC
footprint TSOP56 (Shrink Small Outline, Plastic, Thin; 56 Leads; Body Width 18.4 mm; Pitch 0.5 mm)
pins: 1 NC, 2 NC, 3 A15 (in), 4 A14 (in), 5 A13 (in), 6 A12 (in), 7 A11 (in), 8 A10 (in), 9 A9 (in), 10 A8 (in), 11 NC, 12 NC, 13 ~{WE} (in), 14 ~{RP} (in), 15 NC, 16 NC, 17 VPP (power), 18 DU, 19 NC, 20 A17 (in), 21 A7 (in), 22 A6 (in), 23 A5 (in), 24 A4 (in), 25 A3 (in), 26 A2 (in), 27 A1 (in), 28 NC, 29 NC, 30 NC, 31 A0 (in), 32 ~{CE} (in), 33 GND (power), 34 ~{OE} (in), 35 DQ0 (io), 36 DQ8 (io), 37 DQ1 (io), 38 DQ9 (io), 39 DQ2 (io), 40 DQ10 (io), 41 DQ3 (io), 42 DQ11 (io), 43 VCC (power), 44 VCC (power), 45 DQ4 (io), 46 DQ12 (io), 47 DQ5 (io), 48 DQ13 (io), 49 DQ6 (io), 50 DQ14 (io), 51 DQ7 (io), 52 DQ15/A-1 (io), 53 GND (power), 54 ~{BYTE} (in), 55 A16 (in), 56 NC

## M28F410-100N3
designator U?
4 Mbit (x8 or x16, Block Erase) Flash Memory; Note: Do Not Use pin number 18 (DU).; Published: 24-Aug-2001; LatestRevisionDate: 17-Jul-2002; LatestRevisionNote: Re-released for DXP Platform.; DatasheetDocument: Mar-1995; PackageDocument: Jul-1998; PackageReference: TSOP56; Publisher: Altium Limited; Code_JEDEC: MO-142-EC
footprint TSOP56 (Shrink Small Outline, Plastic, Thin; 56 Leads; Body Width 18.4 mm; Pitch 0.5 mm)
pins: 1 NC, 2 NC, 3 A15 (in), 4 A14 (in), 5 A13 (in), 6 A12 (in), 7 A11 (in), 8 A10 (in), 9 A9 (in), 10 A8 (in), 11 NC, 12 NC, 13 ~{WE} (in), 14 ~{RP} (in), 15 NC, 16 NC, 17 VPP (power), 18 DU, 19 NC, 20 A17 (in), 21 A7 (in), 22 A6 (in), 23 A5 (in), 24 A4 (in), 25 A3 (in), 26 A2 (in), 27 A1 (in), 28 NC, 29 NC, 30 NC, 31 A0 (in), 32 ~{CE} (in), 33 GND (power), 34 ~{OE} (in), 35 DQ0 (io), 36 DQ8 (io), 37 DQ1 (io), 38 DQ9 (io), 39 DQ2 (io), 40 DQ10 (io), 41 DQ3 (io), 42 DQ11 (io), 43 VCC (power), 44 VCC (power), 45 DQ4 (io), 46 DQ12 (io), 47 DQ5 (io), 48 DQ13 (io), 49 DQ6 (io), 50 DQ14 (io), 51 DQ7 (io), 52 DQ15/A-1 (io), 53 GND (power), 54 ~{BYTE} (in), 55 A16 (in), 56 NC

## M28F410-100N6
designator U?
4 Mbit (x8 or x16, Block Erase) Flash Memory; Note: Do Not Use pin number 18 (DU).; Published: 24-Aug-2001; LatestRevisionDate: 17-Jul-2002; LatestRevisionNote: Re-released for DXP Platform.; DatasheetDocument: Mar-1995; PackageDocument: Jul-1998; PackageReference: TSOP56; Publisher: Altium Limited; Code_JEDEC: MO-142-EC
footprint TSOP56 (Shrink Small Outline, Plastic, Thin; 56 Leads; Body Width 18.4 mm; Pitch 0.5 mm)
pins: 1 NC, 2 NC, 3 A15 (in), 4 A14 (in), 5 A13 (in), 6 A12 (in), 7 A11 (in), 8 A10 (in), 9 A9 (in), 10 A8 (in), 11 NC, 12 NC, 13 ~{WE} (in), 14 ~{RP} (in), 15 NC, 16 NC, 17 VPP (power), 18 DU, 19 NC, 20 A17 (in), 21 A7 (in), 22 A6 (in), 23 A5 (in), 24 A4 (in), 25 A3 (in), 26 A2 (in), 27 A1 (in), 28 NC, 29 NC, 30 NC, 31 A0 (in), 32 ~{CE} (in), 33 GND (power), 34 ~{OE} (in), 35 DQ0 (io), 36 DQ8 (io), 37 DQ1 (io), 38 DQ9 (io), 39 DQ2 (io), 40 DQ10 (io), 41 DQ3 (io), 42 DQ11 (io), 43 VCC (power), 44 VCC (power), 45 DQ4 (io), 46 DQ12 (io), 47 DQ5 (io), 48 DQ13 (io), 49 DQ6 (io), 50 DQ14 (io), 51 DQ7 (io), 52 DQ15/A-1 (io), 53 GND (power), 54 ~{BYTE} (in), 55 A16 (in), 56 NC

## M28F410-100XM1
designator U?
4 Mbit (x8 or x16, Block Erase) Flash Memory; Note: Do Not Use pin number 2 (DU).; Published: 24-Aug-2001; LatestRevisionDate: 17-Jul-2002; LatestRevisionNote: Re-released for DXP Platform.; DatasheetDocument: Mar-1995; PackageReference: SO44; Publisher: Altium Limited
footprint SO44 (Small Outline, Plastic; 44 Leads; Body Width 13.3 mm; Pitch 1.27 mm)
pins: 1 VPP (power), 2 DU, 3 A17 (in), 4 A7 (in), 5 A6 (in), 6 A5 (in), 7 A4 (in), 8 A3 (in), 9 A2 (in), 10 A1 (in), 11 A0 (in), 12 ~{CE} (in), 13 GND (power), 14 ~{OE} (in), 15 DQ0 (io), 16 DQ8 (io), 17 DQ1 (io), 18 DQ9 (io), 19 DQ2 (io), 20 DQ10 (io), 21 DQ3 (io), 22 DQ11 (io), 23 VCC (power), 24 DQ4 (io), 25 DQ12 (io), 26 DQ5 (io), 27 DQ13 (io), 28 DQ6 (io), 29 DQ14 (io), 30 DQ7 (io), 31 DQ15/A-1 (io), 32 GND (power), 33 ~{BYTE} (in), 34 A16 (in), 35 A15 (in), 36 A14 (in), 37 A13 (in), 38 A12 (in), 39 A11 (in), 40 A10 (in), 41 A9 (in), 42 A8 (in), 43 ~{WE} (in), 44 ~{RP} (in)

## M28F410-100XM3
designator U?
4 Mbit (x8 or x16, Block Erase) Flash Memory; Note: Do Not Use pin number 2 (DU).; Published: 24-Aug-2001; LatestRevisionDate: 17-Jul-2002; LatestRevisionNote: Re-released for DXP Platform.; DatasheetDocument: Mar-1995; PackageReference: SO44; Publisher: Altium Limited
footprint SO44 (Small Outline, Plastic; 44 Leads; Body Width 13.3 mm; Pitch 1.27 mm)
pins: 1 VPP (power), 2 DU, 3 A17 (in), 4 A7 (in), 5 A6 (in), 6 A5 (in), 7 A4 (in), 8 A3 (in), 9 A2 (in), 10 A1 (in), 11 A0 (in), 12 ~{CE} (in), 13 GND (power), 14 ~{OE} (in), 15 DQ0 (io), 16 DQ8 (io), 17 DQ1 (io), 18 DQ9 (io), 19 DQ2 (io), 20 DQ10 (io), 21 DQ3 (io), 22 DQ11 (io), 23 VCC (power), 24 DQ4 (io), 25 DQ12 (io), 26 DQ5 (io), 27 DQ13 (io), 28 DQ6 (io), 29 DQ14 (io), 30 DQ7 (io), 31 DQ15/A-1 (io), 32 GND (power), 33 ~{BYTE} (in), 34 A16 (in), 35 A15 (in), 36 A14 (in), 37 A13 (in), 38 A12 (in), 39 A11 (in), 40 A10 (in), 41 A9 (in), 42 A8 (in), 43 ~{WE} (in), 44 ~{RP} (in)

## M28F410-100XM6
designator U?
4 Mbit (x8 or x16, Block Erase) Flash Memory; Note: Do Not Use pin number 2 (DU).; Published: 24-Aug-2001; LatestRevisionDate: 17-Jul-2002; LatestRevisionNote: Re-released for DXP Platform.; DatasheetDocument: Mar-1995; PackageReference: SO44; Publisher: Altium Limited
footprint SO44 (Small Outline, Plastic; 44 Leads; Body Width 13.3 mm; Pitch 1.27 mm)
pins: 1 VPP (power), 2 DU, 3 A17 (in), 4 A7 (in), 5 A6 (in), 6 A5 (in), 7 A4 (in), 8 A3 (in), 9 A2 (in), 10 A1 (in), 11 A0 (in), 12 ~{CE} (in), 13 GND (power), 14 ~{OE} (in), 15 DQ0 (io), 16 DQ8 (io), 17 DQ1 (io), 18 DQ9 (io), 19 DQ2 (io), 20 DQ10 (io), 21 DQ3 (io), 22 DQ11 (io), 23 VCC (power), 24 DQ4 (io), 25 DQ12 (io), 26 DQ5 (io), 27 DQ13 (io), 28 DQ6 (io), 29 DQ14 (io), 30 DQ7 (io), 31 DQ15/A-1 (io), 32 GND (power), 33 ~{BYTE} (in), 34 A16 (in), 35 A15 (in), 36 A14 (in), 37 A13 (in), 38 A12 (in), 39 A11 (in), 40 A10 (in), 41 A9 (in), 42 A8 (in), 43 ~{WE} (in), 44 ~{RP} (in)

## M28F410-100XN1
designator U?
4 Mbit (x8 or x16, Block Erase) Flash Memory; Note: Do Not Use pin number 18 (DU).; Published: 24-Aug-2001; LatestRevisionDate: 17-Jul-2002; LatestRevisionNote: Re-released for DXP Platform.; DatasheetDocument: Mar-1995; PackageDocument: Jul-1998; PackageReference: TSOP56; Publisher: Altium Limited; Code_JEDEC: MO-142-EC
footprint TSOP56 (Shrink Small Outline, Plastic, Thin; 56 Leads; Body Width 18.4 mm; Pitch 0.5 mm)
pins: 1 NC, 2 NC, 3 A15 (in), 4 A14 (in), 5 A13 (in), 6 A12 (in), 7 A11 (in), 8 A10 (in), 9 A9 (in), 10 A8 (in), 11 NC, 12 NC, 13 ~{WE} (in), 14 ~{RP} (in), 15 NC, 16 NC, 17 VPP (power), 18 DU, 19 NC, 20 A17 (in), 21 A7 (in), 22 A6 (in), 23 A5 (in), 24 A4 (in), 25 A3 (in), 26 A2 (in), 27 A1 (in), 28 NC, 29 NC, 30 NC, 31 A0 (in), 32 ~{CE} (in), 33 GND (power), 34 ~{OE} (in), 35 DQ0 (io), 36 DQ8 (io), 37 DQ1 (io), 38 DQ9 (io), 39 DQ2 (io), 40 DQ10 (io), 41 DQ3 (io), 42 DQ11 (io), 43 VCC (power), 44 VCC (power), 45 DQ4 (io), 46 DQ12 (io), 47 DQ5 (io), 48 DQ13 (io), 49 DQ6 (io), 50 DQ14 (io), 51 DQ7 (io), 52 DQ15/A-1 (io), 53 GND (power), 54 ~{BYTE} (in), 55 A16 (in), 56 NC

## M28F410-100XN3
designator U?
4 Mbit (x8 or x16, Block Erase) Flash Memory; Note: Do Not Use pin number 18 (DU).; Published: 24-Aug-2001; LatestRevisionDate: 17-Jul-2002; LatestRevisionNote: Re-released for DXP Platform.; DatasheetDocument: Mar-1995; PackageDocument: Jul-1998; PackageReference: TSOP56; Publisher: Altium Limited; Code_JEDEC: MO-142-EC
footprint TSOP56 (Shrink Small Outline, Plastic, Thin; 56 Leads; Body Width 18.4 mm; Pitch 0.5 mm)
pins: 1 NC, 2 NC, 3 A15 (in), 4 A14 (in), 5 A13 (in), 6 A12 (in), 7 A11 (in), 8 A10 (in), 9 A9 (in), 10 A8 (in), 11 NC, 12 NC, 13 ~{WE} (in), 14 ~{RP} (in), 15 NC, 16 NC, 17 VPP (power), 18 DU, 19 NC, 20 A17 (in), 21 A7 (in), 22 A6 (in), 23 A5 (in), 24 A4 (in), 25 A3 (in), 26 A2 (in), 27 A1 (in), 28 NC, 29 NC, 30 NC, 31 A0 (in), 32 ~{CE} (in), 33 GND (power), 34 ~{OE} (in), 35 DQ0 (io), 36 DQ8 (io), 37 DQ1 (io), 38 DQ9 (io), 39 DQ2 (io), 40 DQ10 (io), 41 DQ3 (io), 42 DQ11 (io), 43 VCC (power), 44 VCC (power), 45 DQ4 (io), 46 DQ12 (io), 47 DQ5 (io), 48 DQ13 (io), 49 DQ6 (io), 50 DQ14 (io), 51 DQ7 (io), 52 DQ15/A-1 (io), 53 GND (power), 54 ~{BYTE} (in), 55 A16 (in), 56 NC

## M28F410-100XN6
designator U?
4 Mbit (x8 or x16, Block Erase) Flash Memory; Note: Do Not Use pin number 18 (DU).; Published: 24-Aug-2001; LatestRevisionDate: 17-Jul-2002; LatestRevisionNote: Re-released for DXP Platform.; DatasheetDocument: Mar-1995; PackageDocument: Jul-1998; PackageReference: TSOP56; Publisher: Altium Limited; Code_JEDEC: MO-142-EC
footprint TSOP56 (Shrink Small Outline, Plastic, Thin; 56 Leads; Body Width 18.4 mm; Pitch 0.5 mm)
pins: 1 NC, 2 NC, 3 A15 (in), 4 A14 (in), 5 A13 (in), 6 A12 (in), 7 A11 (in), 8 A10 (in), 9 A9 (in), 10 A8 (in), 11 NC, 12 NC, 13 ~{WE} (in), 14 ~{RP} (in), 15 NC, 16 NC, 17 VPP (power), 18 DU, 19 NC, 20 A17 (in), 21 A7 (in), 22 A6 (in), 23 A5 (in), 24 A4 (in), 25 A3 (in), 26 A2 (in), 27 A1 (in), 28 NC, 29 NC, 30 NC, 31 A0 (in), 32 ~{CE} (in), 33 GND (power), 34 ~{OE} (in), 35 DQ0 (io), 36 DQ8 (io), 37 DQ1 (io), 38 DQ9 (io), 39 DQ2 (io), 40 DQ10 (io), 41 DQ3 (io), 42 DQ11 (io), 43 VCC (power), 44 VCC (power), 45 DQ4 (io), 46 DQ12 (io), 47 DQ5 (io), 48 DQ13 (io), 49 DQ6 (io), 50 DQ14 (io), 51 DQ7 (io), 52 DQ15/A-1 (io), 53 GND (power), 54 ~{BYTE} (in), 55 A16 (in), 56 NC

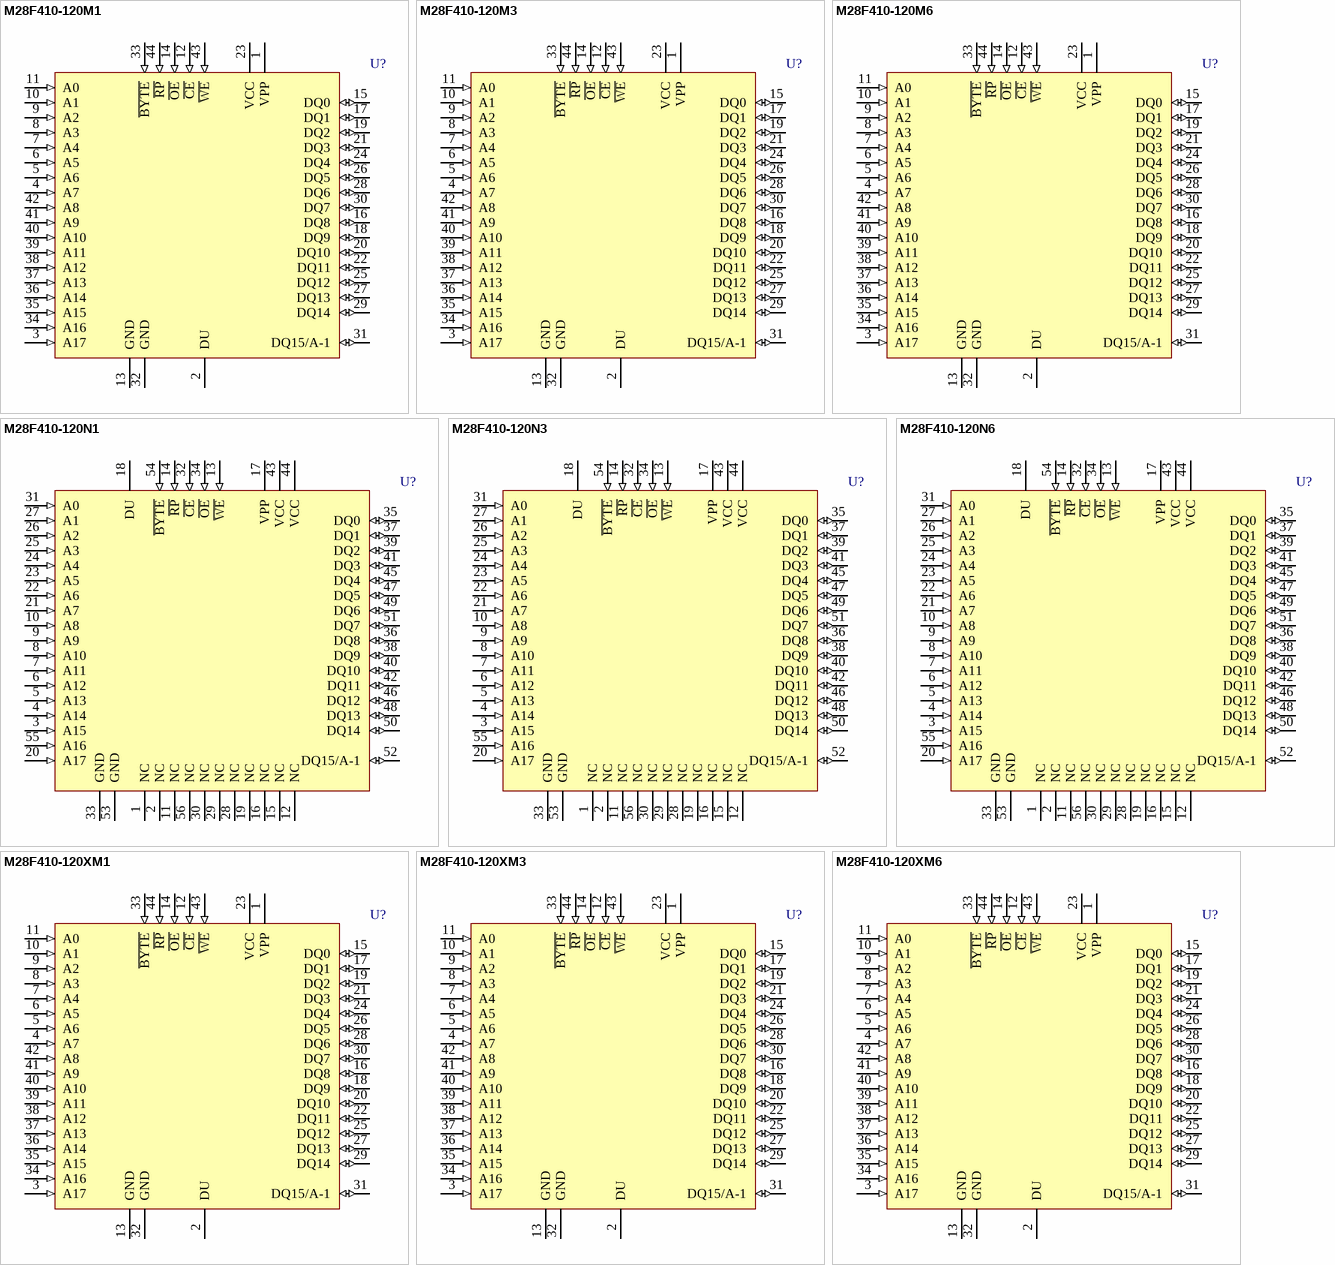
[diagram p36: symbols M28F410-120M1 to M28F410-120XM6]

## M28F410-120M1
designator U?
4 Mbit (x8 or x16, Block Erase) Flash Memory; Note: Do Not Use pin number 2 (DU).; Published: 24-Aug-2001; LatestRevisionDate: 17-Jul-2002; LatestRevisionNote: Re-released for DXP Platform.; DatasheetDocument: Mar-1995; PackageReference: SO44; Publisher: Altium Limited
footprint SO44 (Small Outline, Plastic; 44 Leads; Body Width 13.3 mm; Pitch 1.27 mm)
pins: 1 VPP (power), 2 DU, 3 A17 (in), 4 A7 (in), 5 A6 (in), 6 A5 (in), 7 A4 (in), 8 A3 (in), 9 A2 (in), 10 A1 (in), 11 A0 (in), 12 ~{CE} (in), 13 GND (power), 14 ~{OE} (in), 15 DQ0 (io), 16 DQ8 (io), 17 DQ1 (io), 18 DQ9 (io), 19 DQ2 (io), 20 DQ10 (io), 21 DQ3 (io), 22 DQ11 (io), 23 VCC (power), 24 DQ4 (io), 25 DQ12 (io), 26 DQ5 (io), 27 DQ13 (io), 28 DQ6 (io), 29 DQ14 (io), 30 DQ7 (io), 31 DQ15/A-1 (io), 32 GND (power), 33 ~{BYTE} (in), 34 A16 (in), 35 A15 (in), 36 A14 (in), 37 A13 (in), 38 A12 (in), 39 A11 (in), 40 A10 (in), 41 A9 (in), 42 A8 (in), 43 ~{WE} (in), 44 ~{RP} (in)

## M28F410-120M3
designator U?
4 Mbit (x8 or x16, Block Erase) Flash Memory; Note: Do Not Use pin number 2 (DU).; Published: 24-Aug-2001; LatestRevisionDate: 17-Jul-2002; LatestRevisionNote: Re-released for DXP Platform.; DatasheetDocument: Mar-1995; PackageReference: SO44; Publisher: Altium Limited
footprint SO44 (Small Outline, Plastic; 44 Leads; Body Width 13.3 mm; Pitch 1.27 mm)
pins: 1 VPP (power), 2 DU, 3 A17 (in), 4 A7 (in), 5 A6 (in), 6 A5 (in), 7 A4 (in), 8 A3 (in), 9 A2 (in), 10 A1 (in), 11 A0 (in), 12 ~{CE} (in), 13 GND (power), 14 ~{OE} (in), 15 DQ0 (io), 16 DQ8 (io), 17 DQ1 (io), 18 DQ9 (io), 19 DQ2 (io), 20 DQ10 (io), 21 DQ3 (io), 22 DQ11 (io), 23 VCC (power), 24 DQ4 (io), 25 DQ12 (io), 26 DQ5 (io), 27 DQ13 (io), 28 DQ6 (io), 29 DQ14 (io), 30 DQ7 (io), 31 DQ15/A-1 (io), 32 GND (power), 33 ~{BYTE} (in), 34 A16 (in), 35 A15 (in), 36 A14 (in), 37 A13 (in), 38 A12 (in), 39 A11 (in), 40 A10 (in), 41 A9 (in), 42 A8 (in), 43 ~{WE} (in), 44 ~{RP} (in)

## M28F410-120M6
designator U?
4 Mbit (x8 or x16, Block Erase) Flash Memory; Note: Do Not Use pin number 2 (DU).; Published: 24-Aug-2001; LatestRevisionDate: 17-Jul-2002; LatestRevisionNote: Re-released for DXP Platform.; DatasheetDocument: Mar-1995; PackageReference: SO44; Publisher: Altium Limited
footprint SO44 (Small Outline, Plastic; 44 Leads; Body Width 13.3 mm; Pitch 1.27 mm)
pins: 1 VPP (power), 2 DU, 3 A17 (in), 4 A7 (in), 5 A6 (in), 6 A5 (in), 7 A4 (in), 8 A3 (in), 9 A2 (in), 10 A1 (in), 11 A0 (in), 12 ~{CE} (in), 13 GND (power), 14 ~{OE} (in), 15 DQ0 (io), 16 DQ8 (io), 17 DQ1 (io), 18 DQ9 (io), 19 DQ2 (io), 20 DQ10 (io), 21 DQ3 (io), 22 DQ11 (io), 23 VCC (power), 24 DQ4 (io), 25 DQ12 (io), 26 DQ5 (io), 27 DQ13 (io), 28 DQ6 (io), 29 DQ14 (io), 30 DQ7 (io), 31 DQ15/A-1 (io), 32 GND (power), 33 ~{BYTE} (in), 34 A16 (in), 35 A15 (in), 36 A14 (in), 37 A13 (in), 38 A12 (in), 39 A11 (in), 40 A10 (in), 41 A9 (in), 42 A8 (in), 43 ~{WE} (in), 44 ~{RP} (in)

## M28F410-120N1
designator U?
4 Mbit (x8 or x16, Block Erase) Flash Memory; Note: Do Not Use pin number 18 (DU).; Published: 24-Aug-2001; LatestRevisionDate: 17-Jul-2002; LatestRevisionNote: Re-released for DXP Platform.; DatasheetDocument: Mar-1995; PackageDocument: Jul-1998; PackageReference: TSOP56; Publisher: Altium Limited; Code_JEDEC: MO-142-EC
footprint TSOP56 (Shrink Small Outline, Plastic, Thin; 56 Leads; Body Width 18.4 mm; Pitch 0.5 mm)
pins: 1 NC, 2 NC, 3 A15 (in), 4 A14 (in), 5 A13 (in), 6 A12 (in), 7 A11 (in), 8 A10 (in), 9 A9 (in), 10 A8 (in), 11 NC, 12 NC, 13 ~{WE} (in), 14 ~{RP} (in), 15 NC, 16 NC, 17 VPP (power), 18 DU, 19 NC, 20 A17 (in), 21 A7 (in), 22 A6 (in), 23 A5 (in), 24 A4 (in), 25 A3 (in), 26 A2 (in), 27 A1 (in), 28 NC, 29 NC, 30 NC, 31 A0 (in), 32 ~{CE} (in), 33 GND (power), 34 ~{OE} (in), 35 DQ0 (io), 36 DQ8 (io), 37 DQ1 (io), 38 DQ9 (io), 39 DQ2 (io), 40 DQ10 (io), 41 DQ3 (io), 42 DQ11 (io), 43 VCC (power), 44 VCC (power), 45 DQ4 (io), 46 DQ12 (io), 47 DQ5 (io), 48 DQ13 (io), 49 DQ6 (io), 50 DQ14 (io), 51 DQ7 (io), 52 DQ15/A-1 (io), 53 GND (power), 54 ~{BYTE} (in), 55 A16 (in), 56 NC

## M28F410-120N3
designator U?
4 Mbit (x8 or x16, Block Erase) Flash Memory; Note: Do Not Use pin number 18 (DU).; Published: 24-Aug-2001; LatestRevisionDate: 17-Jul-2002; LatestRevisionNote: Re-released for DXP Platform.; DatasheetDocument: Mar-1995; PackageDocument: Jul-1998; PackageReference: TSOP56; Publisher: Altium Limited; Code_JEDEC: MO-142-EC
footprint TSOP56 (Shrink Small Outline, Plastic, Thin; 56 Leads; Body Width 18.4 mm; Pitch 0.5 mm)
pins: 1 NC, 2 NC, 3 A15 (in), 4 A14 (in), 5 A13 (in), 6 A12 (in), 7 A11 (in), 8 A10 (in), 9 A9 (in), 10 A8 (in), 11 NC, 12 NC, 13 ~{WE} (in), 14 ~{RP} (in), 15 NC, 16 NC, 17 VPP (power), 18 DU, 19 NC, 20 A17 (in), 21 A7 (in), 22 A6 (in), 23 A5 (in), 24 A4 (in), 25 A3 (in), 26 A2 (in), 27 A1 (in), 28 NC, 29 NC, 30 NC, 31 A0 (in), 32 ~{CE} (in), 33 GND (power), 34 ~{OE} (in), 35 DQ0 (io), 36 DQ8 (io), 37 DQ1 (io), 38 DQ9 (io), 39 DQ2 (io), 40 DQ10 (io), 41 DQ3 (io), 42 DQ11 (io), 43 VCC (power), 44 VCC (power), 45 DQ4 (io), 46 DQ12 (io), 47 DQ5 (io), 48 DQ13 (io), 49 DQ6 (io), 50 DQ14 (io), 51 DQ7 (io), 52 DQ15/A-1 (io), 53 GND (power), 54 ~{BYTE} (in), 55 A16 (in), 56 NC

## M28F410-120N6
designator U?
4 Mbit (x8 or x16, Block Erase) Flash Memory; Note: Do Not Use pin number 18 (DU).; Published: 24-Aug-2001; LatestRevisionDate: 17-Jul-2002; LatestRevisionNote: Re-released for DXP Platform.; DatasheetDocument: Mar-1995; PackageDocument: Jul-1998; PackageReference: TSOP56; Publisher: Altium Limited; Code_JEDEC: MO-142-EC
footprint TSOP56 (Shrink Small Outline, Plastic, Thin; 56 Leads; Body Width 18.4 mm; Pitch 0.5 mm)
pins: 1 NC, 2 NC, 3 A15 (in), 4 A14 (in), 5 A13 (in), 6 A12 (in), 7 A11 (in), 8 A10 (in), 9 A9 (in), 10 A8 (in), 11 NC, 12 NC, 13 ~{WE} (in), 14 ~{RP} (in), 15 NC, 16 NC, 17 VPP (power), 18 DU, 19 NC, 20 A17 (in), 21 A7 (in), 22 A6 (in), 23 A5 (in), 24 A4 (in), 25 A3 (in), 26 A2 (in), 27 A1 (in), 28 NC, 29 NC, 30 NC, 31 A0 (in), 32 ~{CE} (in), 33 GND (power), 34 ~{OE} (in), 35 DQ0 (io), 36 DQ8 (io), 37 DQ1 (io), 38 DQ9 (io), 39 DQ2 (io), 40 DQ10 (io), 41 DQ3 (io), 42 DQ11 (io), 43 VCC (power), 44 VCC (power), 45 DQ4 (io), 46 DQ12 (io), 47 DQ5 (io), 48 DQ13 (io), 49 DQ6 (io), 50 DQ14 (io), 51 DQ7 (io), 52 DQ15/A-1 (io), 53 GND (power), 54 ~{BYTE} (in), 55 A16 (in), 56 NC

## M28F410-120XM1
designator U?
4 Mbit (x8 or x16, Block Erase) Flash Memory; Note: Do Not Use pin number 2 (DU).; Published: 24-Aug-2001; LatestRevisionDate: 17-Jul-2002; LatestRevisionNote: Re-released for DXP Platform.; DatasheetDocument: Mar-1995; PackageReference: SO44; Publisher: Altium Limited
footprint SO44 (Small Outline, Plastic; 44 Leads; Body Width 13.3 mm; Pitch 1.27 mm)
pins: 1 VPP (power), 2 DU, 3 A17 (in), 4 A7 (in), 5 A6 (in), 6 A5 (in), 7 A4 (in), 8 A3 (in), 9 A2 (in), 10 A1 (in), 11 A0 (in), 12 ~{CE} (in), 13 GND (power), 14 ~{OE} (in), 15 DQ0 (io), 16 DQ8 (io), 17 DQ1 (io), 18 DQ9 (io), 19 DQ2 (io), 20 DQ10 (io), 21 DQ3 (io), 22 DQ11 (io), 23 VCC (power), 24 DQ4 (io), 25 DQ12 (io), 26 DQ5 (io), 27 DQ13 (io), 28 DQ6 (io), 29 DQ14 (io), 30 DQ7 (io), 31 DQ15/A-1 (io), 32 GND (power), 33 ~{BYTE} (in), 34 A16 (in), 35 A15 (in), 36 A14 (in), 37 A13 (in), 38 A12 (in), 39 A11 (in), 40 A10 (in), 41 A9 (in), 42 A8 (in), 43 ~{WE} (in), 44 ~{RP} (in)

## M28F410-120XM3
designator U?
4 Mbit (x8 or x16, Block Erase) Flash Memory; Note: Do Not Use pin number 2 (DU).; Published: 24-Aug-2001; LatestRevisionDate: 17-Jul-2002; LatestRevisionNote: Re-released for DXP Platform.; DatasheetDocument: Mar-1995; PackageReference: SO44; Publisher: Altium Limited
footprint SO44 (Small Outline, Plastic; 44 Leads; Body Width 13.3 mm; Pitch 1.27 mm)
pins: 1 VPP (power), 2 DU, 3 A17 (in), 4 A7 (in), 5 A6 (in), 6 A5 (in), 7 A4 (in), 8 A3 (in), 9 A2 (in), 10 A1 (in), 11 A0 (in), 12 ~{CE} (in), 13 GND (power), 14 ~{OE} (in), 15 DQ0 (io), 16 DQ8 (io), 17 DQ1 (io), 18 DQ9 (io), 19 DQ2 (io), 20 DQ10 (io), 21 DQ3 (io), 22 DQ11 (io), 23 VCC (power), 24 DQ4 (io), 25 DQ12 (io), 26 DQ5 (io), 27 DQ13 (io), 28 DQ6 (io), 29 DQ14 (io), 30 DQ7 (io), 31 DQ15/A-1 (io), 32 GND (power), 33 ~{BYTE} (in), 34 A16 (in), 35 A15 (in), 36 A14 (in), 37 A13 (in), 38 A12 (in), 39 A11 (in), 40 A10 (in), 41 A9 (in), 42 A8 (in), 43 ~{WE} (in), 44 ~{RP} (in)

## M28F410-120XM6
designator U?
4 Mbit (x8 or x16, Block Erase) Flash Memory; Note: Do Not Use pin number 2 (DU).; Published: 24-Aug-2001; LatestRevisionDate: 17-Jul-2002; LatestRevisionNote: Re-released for DXP Platform.; DatasheetDocument: Mar-1995; PackageReference: SO44; Publisher: Altium Limited
footprint SO44 (Small Outline, Plastic; 44 Leads; Body Width 13.3 mm; Pitch 1.27 mm)
pins: 1 VPP (power), 2 DU, 3 A17 (in), 4 A7 (in), 5 A6 (in), 6 A5 (in), 7 A4 (in), 8 A3 (in), 9 A2 (in), 10 A1 (in), 11 A0 (in), 12 ~{CE} (in), 13 GND (power), 14 ~{OE} (in), 15 DQ0 (io), 16 DQ8 (io), 17 DQ1 (io), 18 DQ9 (io), 19 DQ2 (io), 20 DQ10 (io), 21 DQ3 (io), 22 DQ11 (io), 23 VCC (power), 24 DQ4 (io), 25 DQ12 (io), 26 DQ5 (io), 27 DQ13 (io), 28 DQ6 (io), 29 DQ14 (io), 30 DQ7 (io), 31 DQ15/A-1 (io), 32 GND (power), 33 ~{BYTE} (in), 34 A16 (in), 35 A15 (in), 36 A14 (in), 37 A13 (in), 38 A12 (in), 39 A11 (in), 40 A10 (in), 41 A9 (in), 42 A8 (in), 43 ~{WE} (in), 44 ~{RP} (in)

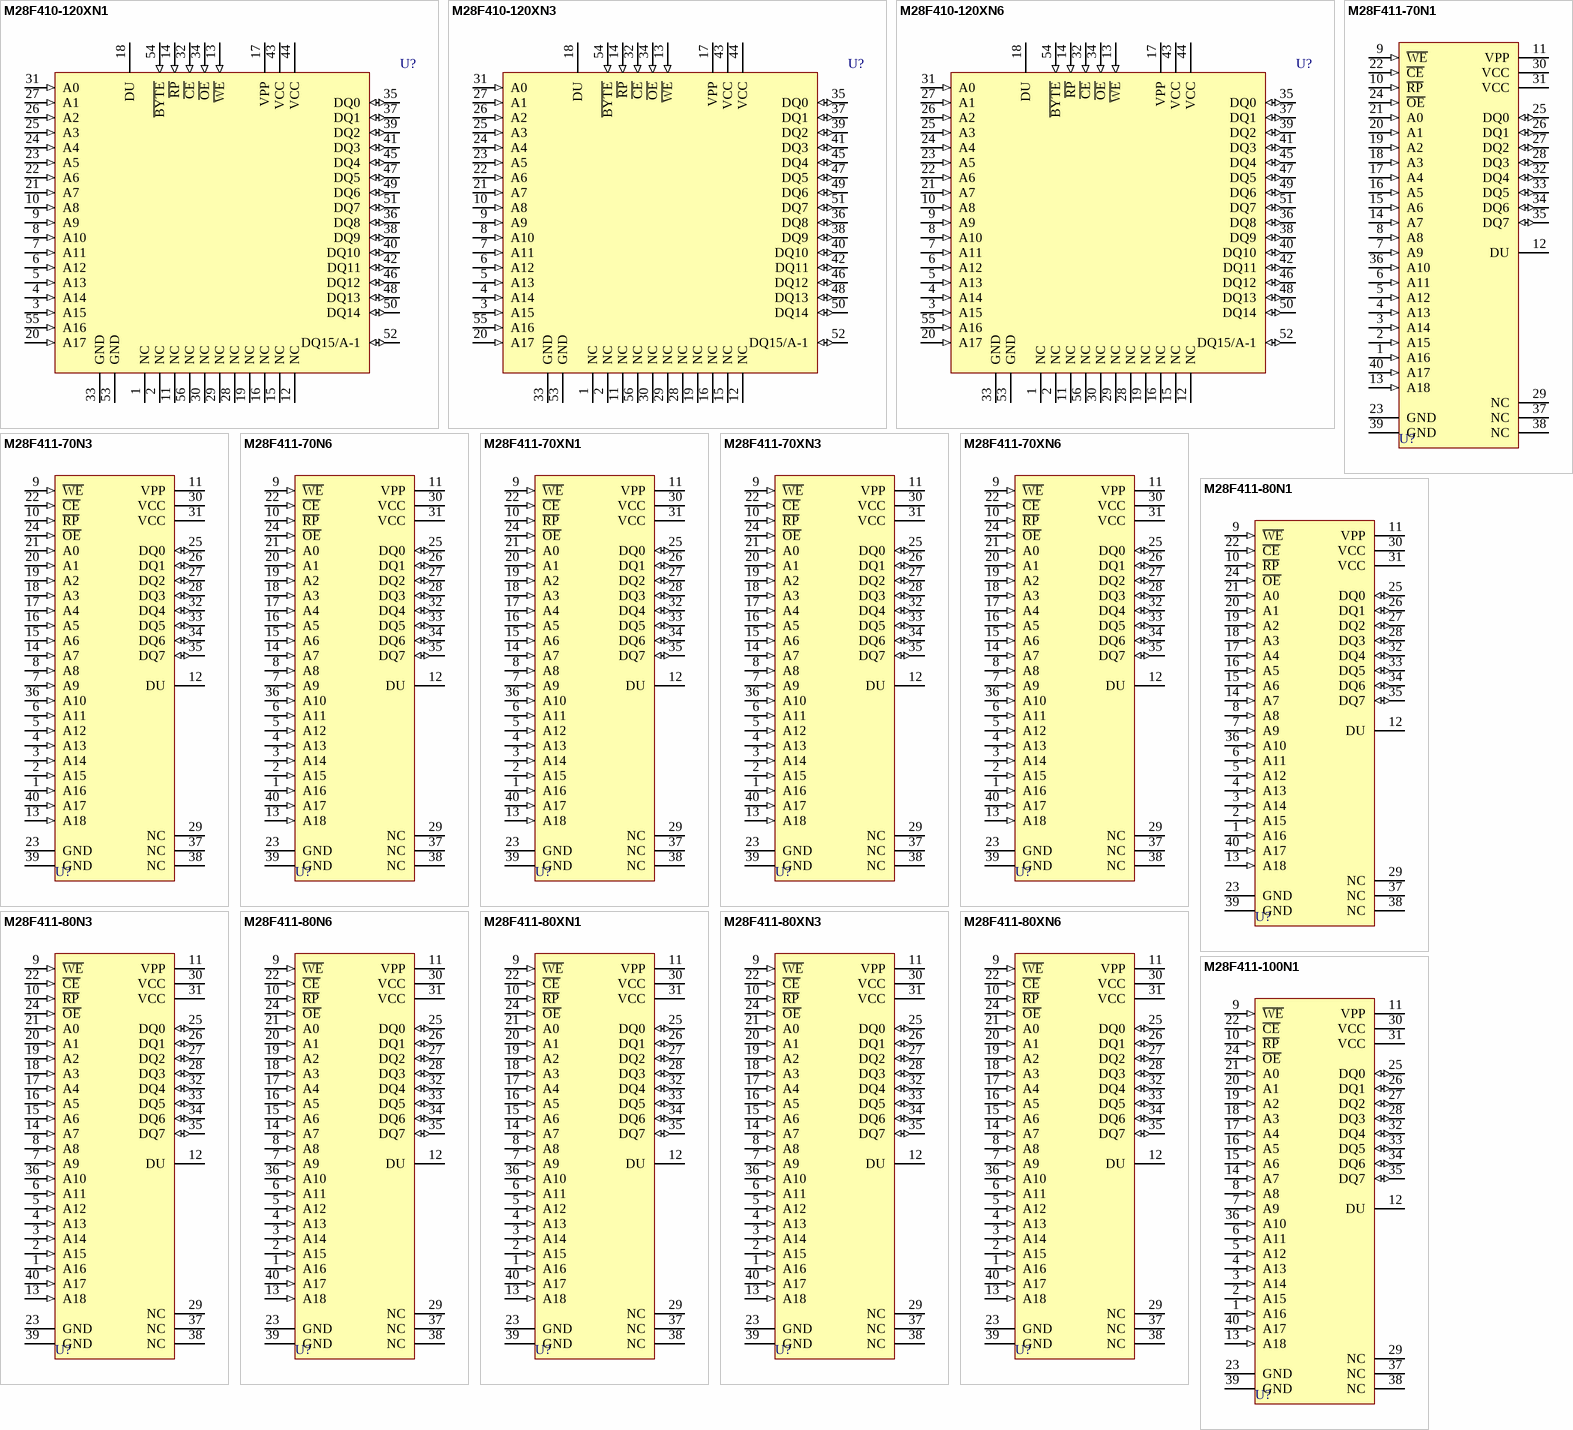
[diagram p37: symbols M28F410-120XN1 to M28F411-100N1]

## M28F410-120XN1
designator U?
4 Mbit (x8 or x16, Block Erase) Flash Memory; Note: Do Not Use pin number 18 (DU).; Published: 24-Aug-2001; LatestRevisionDate: 17-Jul-2002; LatestRevisionNote: Re-released for DXP Platform.; DatasheetDocument: Mar-1995; PackageDocument: Jul-1998; PackageReference: TSOP56; Publisher: Altium Limited; Code_JEDEC: MO-142-EC
footprint TSOP56 (Shrink Small Outline, Plastic, Thin; 56 Leads; Body Width 18.4 mm; Pitch 0.5 mm)
pins: 1 NC, 2 NC, 3 A15 (in), 4 A14 (in), 5 A13 (in), 6 A12 (in), 7 A11 (in), 8 A10 (in), 9 A9 (in), 10 A8 (in), 11 NC, 12 NC, 13 ~{WE} (in), 14 ~{RP} (in), 15 NC, 16 NC, 17 VPP (power), 18 DU, 19 NC, 20 A17 (in), 21 A7 (in), 22 A6 (in), 23 A5 (in), 24 A4 (in), 25 A3 (in), 26 A2 (in), 27 A1 (in), 28 NC, 29 NC, 30 NC, 31 A0 (in), 32 ~{CE} (in), 33 GND (power), 34 ~{OE} (in), 35 DQ0 (io), 36 DQ8 (io), 37 DQ1 (io), 38 DQ9 (io), 39 DQ2 (io), 40 DQ10 (io), 41 DQ3 (io), 42 DQ11 (io), 43 VCC (power), 44 VCC (power), 45 DQ4 (io), 46 DQ12 (io), 47 DQ5 (io), 48 DQ13 (io), 49 DQ6 (io), 50 DQ14 (io), 51 DQ7 (io), 52 DQ15/A-1 (io), 53 GND (power), 54 ~{BYTE} (in), 55 A16 (in), 56 NC

## M28F410-120XN3
designator U?
4 Mbit (x8 or x16, Block Erase) Flash Memory; Note: Do Not Use pin number 18 (DU).; Published: 24-Aug-2001; LatestRevisionDate: 17-Jul-2002; LatestRevisionNote: Re-released for DXP Platform.; DatasheetDocument: Mar-1995; PackageDocument: Jul-1998; PackageReference: TSOP56; Publisher: Altium Limited; Code_JEDEC: MO-142-EC
footprint TSOP56 (Shrink Small Outline, Plastic, Thin; 56 Leads; Body Width 18.4 mm; Pitch 0.5 mm)
pins: 1 NC, 2 NC, 3 A15 (in), 4 A14 (in), 5 A13 (in), 6 A12 (in), 7 A11 (in), 8 A10 (in), 9 A9 (in), 10 A8 (in), 11 NC, 12 NC, 13 ~{WE} (in), 14 ~{RP} (in), 15 NC, 16 NC, 17 VPP (power), 18 DU, 19 NC, 20 A17 (in), 21 A7 (in), 22 A6 (in), 23 A5 (in), 24 A4 (in), 25 A3 (in), 26 A2 (in), 27 A1 (in), 28 NC, 29 NC, 30 NC, 31 A0 (in), 32 ~{CE} (in), 33 GND (power), 34 ~{OE} (in), 35 DQ0 (io), 36 DQ8 (io), 37 DQ1 (io), 38 DQ9 (io), 39 DQ2 (io), 40 DQ10 (io), 41 DQ3 (io), 42 DQ11 (io), 43 VCC (power), 44 VCC (power), 45 DQ4 (io), 46 DQ12 (io), 47 DQ5 (io), 48 DQ13 (io), 49 DQ6 (io), 50 DQ14 (io), 51 DQ7 (io), 52 DQ15/A-1 (io), 53 GND (power), 54 ~{BYTE} (in), 55 A16 (in), 56 NC

## M28F410-120XN6
designator U?
4 Mbit (x8 or x16, Block Erase) Flash Memory; Note: Do Not Use pin number 18 (DU).; Published: 24-Aug-2001; LatestRevisionDate: 17-Jul-2002; LatestRevisionNote: Re-released for DXP Platform.; DatasheetDocument: Mar-1995; PackageDocument: Jul-1998; PackageReference: TSOP56; Publisher: Altium Limited; Code_JEDEC: MO-142-EC
footprint TSOP56 (Shrink Small Outline, Plastic, Thin; 56 Leads; Body Width 18.4 mm; Pitch 0.5 mm)
pins: 1 NC, 2 NC, 3 A15 (in), 4 A14 (in), 5 A13 (in), 6 A12 (in), 7 A11 (in), 8 A10 (in), 9 A9 (in), 10 A8 (in), 11 NC, 12 NC, 13 ~{WE} (in), 14 ~{RP} (in), 15 NC, 16 NC, 17 VPP (power), 18 DU, 19 NC, 20 A17 (in), 21 A7 (in), 22 A6 (in), 23 A5 (in), 24 A4 (in), 25 A3 (in), 26 A2 (in), 27 A1 (in), 28 NC, 29 NC, 30 NC, 31 A0 (in), 32 ~{CE} (in), 33 GND (power), 34 ~{OE} (in), 35 DQ0 (io), 36 DQ8 (io), 37 DQ1 (io), 38 DQ9 (io), 39 DQ2 (io), 40 DQ10 (io), 41 DQ3 (io), 42 DQ11 (io), 43 VCC (power), 44 VCC (power), 45 DQ4 (io), 46 DQ12 (io), 47 DQ5 (io), 48 DQ13 (io), 49 DQ6 (io), 50 DQ14 (io), 51 DQ7 (io), 52 DQ15/A-1 (io), 53 GND (power), 54 ~{BYTE} (in), 55 A16 (in), 56 NC

## M28F411-70N1
designator U?
4 Mbit (x8, Block Erase) Flash Memory; Note: Do Not Use pin number 12 (DU).; Published: 24-Aug-2001; LatestRevisionDate: 17-Jul-2002; LatestRevisionNote: Re-released for DXP Platform.; DatasheetDocument: Oct-1995; PackageDocument: Jul-1998; PackageReference: TSOP40A; Publisher: Altium Limited; Code_JEDEC: MO-142-CD
footprint TSOP40A (Shrink Small Outline, Plastic, Thin; 40 Leads; Body Width 18.4 mm; Pitch 0.5 mm)
pins: 1 A16 (in), 2 A15 (in), 3 A14 (in), 4 A13 (in), 5 A12 (in), 6 A11 (in), 7 A9 (in), 8 A8 (in), 9 ~{WE} (in), 10 ~{RP} (in), 11 VPP (power), 12 DU, 13 A18 (in), 14 A7 (in), 15 A6 (in), 16 A5 (in), 17 A4 (in), 18 A3 (in), 19 A2 (in), 20 A1 (in), 21 A0 (in), 22 ~{CE} (in), 23 GND (power), 24 ~{OE} (in), 25 DQ0 (io), 26 DQ1 (io), 27 DQ2 (io), 28 DQ3 (io), 29 NC, 30 VCC (power), 31 VCC (power), 32 DQ4 (io), 33 DQ5 (io), 34 DQ6 (io), 35 DQ7 (io), 36 A10 (in), 37 NC, 38 NC, 39 GND (power), 40 A17 (in)

## M28F411-70N3
designator U?
4 Mbit (x8, Block Erase) Flash Memory; Note: Do Not Use pin number 12 (DU).; Published: 24-Aug-2001; LatestRevisionDate: 17-Jul-2002; LatestRevisionNote: Re-released for DXP Platform.; DatasheetDocument: Oct-1995; PackageDocument: Jul-1998; PackageReference: TSOP40A; Publisher: Altium Limited; Code_JEDEC: MO-142-CD
footprint TSOP40A (Shrink Small Outline, Plastic, Thin; 40 Leads; Body Width 18.4 mm; Pitch 0.5 mm)
pins: 1 A16 (in), 2 A15 (in), 3 A14 (in), 4 A13 (in), 5 A12 (in), 6 A11 (in), 7 A9 (in), 8 A8 (in), 9 ~{WE} (in), 10 ~{RP} (in), 11 VPP (power), 12 DU, 13 A18 (in), 14 A7 (in), 15 A6 (in), 16 A5 (in), 17 A4 (in), 18 A3 (in), 19 A2 (in), 20 A1 (in), 21 A0 (in), 22 ~{CE} (in), 23 GND (power), 24 ~{OE} (in), 25 DQ0 (io), 26 DQ1 (io), 27 DQ2 (io), 28 DQ3 (io), 29 NC, 30 VCC (power), 31 VCC (power), 32 DQ4 (io), 33 DQ5 (io), 34 DQ6 (io), 35 DQ7 (io), 36 A10 (in), 37 NC, 38 NC, 39 GND (power), 40 A17 (in)

## M28F411-70N6
designator U?
4 Mbit (x8, Block Erase) Flash Memory; Note: Do Not Use pin number 12 (DU).; Published: 24-Aug-2001; LatestRevisionDate: 17-Jul-2002; LatestRevisionNote: Re-released for DXP Platform.; DatasheetDocument: Oct-1995; PackageDocument: Jul-1998; PackageReference: TSOP40A; Publisher: Altium Limited; Code_JEDEC: MO-142-CD
footprint TSOP40A (Shrink Small Outline, Plastic, Thin; 40 Leads; Body Width 18.4 mm; Pitch 0.5 mm)
pins: 1 A16 (in), 2 A15 (in), 3 A14 (in), 4 A13 (in), 5 A12 (in), 6 A11 (in), 7 A9 (in), 8 A8 (in), 9 ~{WE} (in), 10 ~{RP} (in), 11 VPP (power), 12 DU, 13 A18 (in), 14 A7 (in), 15 A6 (in), 16 A5 (in), 17 A4 (in), 18 A3 (in), 19 A2 (in), 20 A1 (in), 21 A0 (in), 22 ~{CE} (in), 23 GND (power), 24 ~{OE} (in), 25 DQ0 (io), 26 DQ1 (io), 27 DQ2 (io), 28 DQ3 (io), 29 NC, 30 VCC (power), 31 VCC (power), 32 DQ4 (io), 33 DQ5 (io), 34 DQ6 (io), 35 DQ7 (io), 36 A10 (in), 37 NC, 38 NC, 39 GND (power), 40 A17 (in)

## M28F411-70XN1
designator U?
4 Mbit (x8, Block Erase) Flash Memory; Note: Do Not Use pin number 12 (DU).; Published: 24-Aug-2001; LatestRevisionDate: 17-Jul-2002; LatestRevisionNote: Re-released for DXP Platform.; DatasheetDocument: Oct-1995; PackageDocument: Jul-1998; PackageReference: TSOP40A; Publisher: Altium Limited; Code_JEDEC: MO-142-CD
footprint TSOP40A (Shrink Small Outline, Plastic, Thin; 40 Leads; Body Width 18.4 mm; Pitch 0.5 mm)
pins: 1 A16 (in), 2 A15 (in), 3 A14 (in), 4 A13 (in), 5 A12 (in), 6 A11 (in), 7 A9 (in), 8 A8 (in), 9 ~{WE} (in), 10 ~{RP} (in), 11 VPP (power), 12 DU, 13 A18 (in), 14 A7 (in), 15 A6 (in), 16 A5 (in), 17 A4 (in), 18 A3 (in), 19 A2 (in), 20 A1 (in), 21 A0 (in), 22 ~{CE} (in), 23 GND (power), 24 ~{OE} (in), 25 DQ0 (io), 26 DQ1 (io), 27 DQ2 (io), 28 DQ3 (io), 29 NC, 30 VCC (power), 31 VCC (power), 32 DQ4 (io), 33 DQ5 (io), 34 DQ6 (io), 35 DQ7 (io), 36 A10 (in), 37 NC, 38 NC, 39 GND (power), 40 A17 (in)